# Altium integrated library con-molex.IntLib: 368 symbols (part 4 of 6)

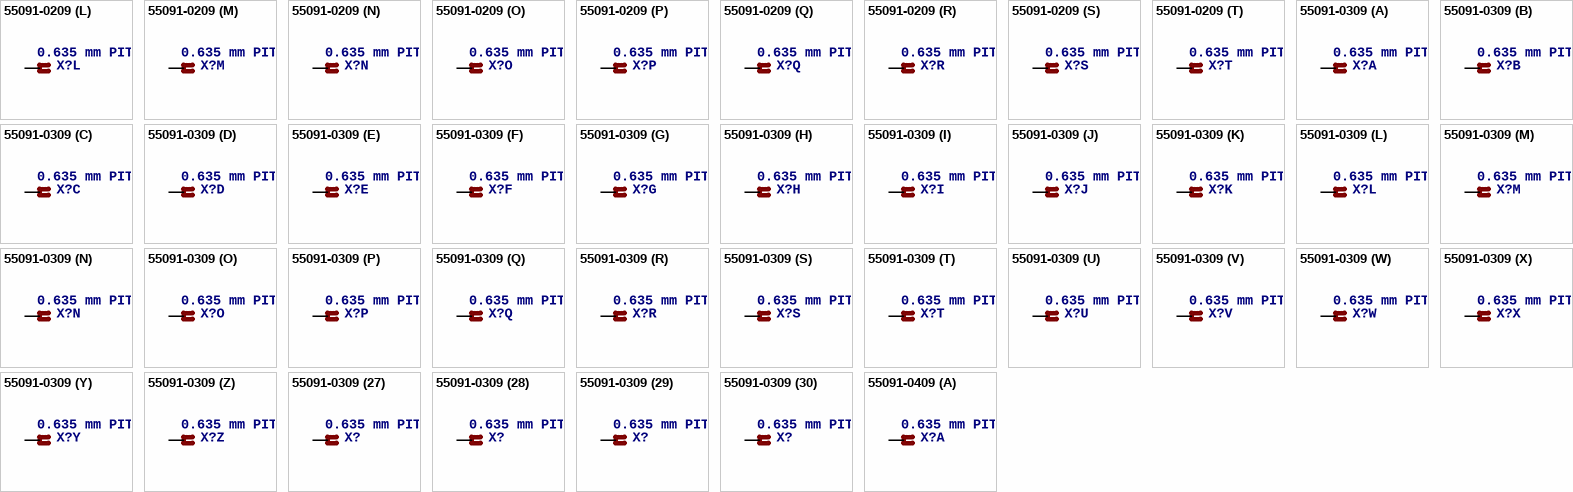
[diagram p69: symbols 55091-0209 to 55091-0409]

## 55091-0209
designator X?, comment 0.635 mm PITCH B TO B CONN.   Source: http://www.molex.com/pdm_docs/sd/550911609_sd.pdf
OC_FARNELL: unknown; OC_NEWARK: unknown
footprint 55091-0209
part A pins: 1 S
part B pins: 2 S
part C pins: 3 S
part D pins: 4 S
part E pins: 5 S
part F pins: 6 S
part G pins: 7 S
part H pins: 8 S
part I pins: 9 S
part J pins: 10 S
part K pins: 11 S
part L pins: 12 S
part M pins: 13 S
part N pins: 14 S
part O pins: 15 S
part P pins: 16 S
part Q pins: 17 S
part R pins: 18 S
part S pins: 19 S
part T pins: 20 S

## 55091-0309
designator X?, comment 0.635 mm PITCH B TO B CONN.   Source: http://www.molex.com/pdm_docs/sd/550911609_sd.pdf
OC_FARNELL: unknown; OC_NEWARK: unknown
footprint 55091-0309
part A pins: 1 S
part B pins: 2 S
part C pins: 3 S
part D pins: 4 S
part E pins: 5 S
part F pins: 6 S
part G pins: 7 S
part H pins: 8 S
part I pins: 9 S
part J pins: 10 S
part K pins: 11 S
part L pins: 12 S
part M pins: 13 S
part N pins: 14 S
part O pins: 15 S
part P pins: 16 S
part Q pins: 17 S
part R pins: 18 S
part S pins: 19 S
part T pins: 20 S
part U pins: 21 S
part V pins: 22 S
part W pins: 23 S
part X pins: 24 S
part Y pins: 25 S
part Z pins: 26 S
part 27 pins: 27 S
part 28 pins: 28 S
part 29 pins: 29 S
part 30 pins: 30 S

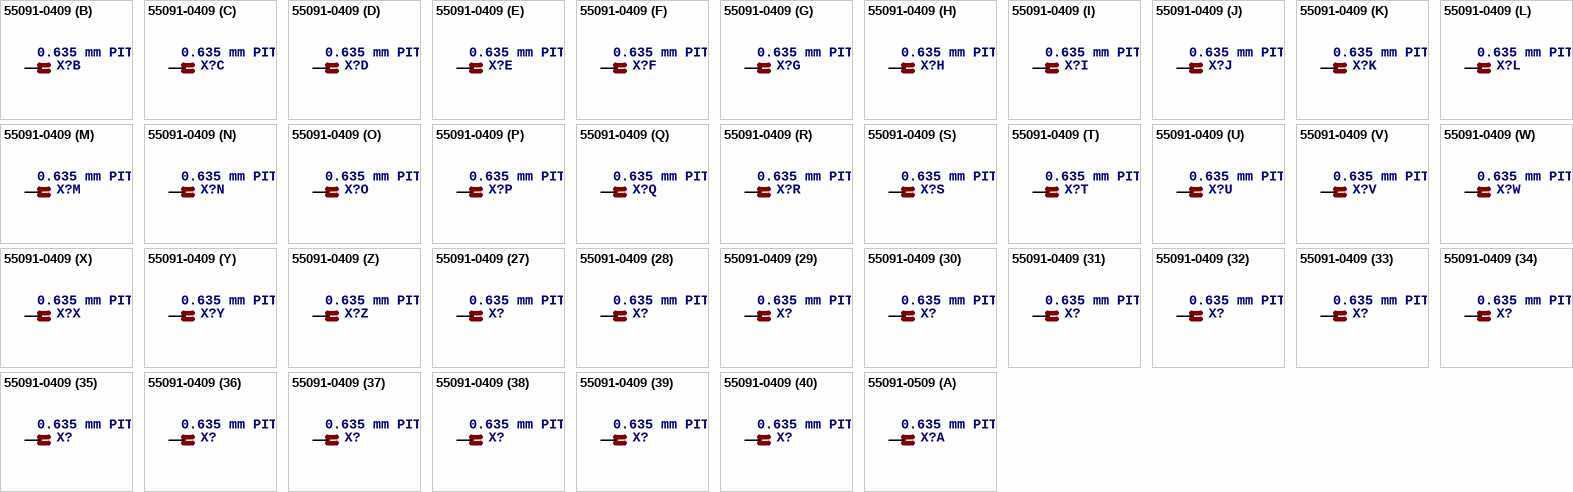
[diagram p70: symbols 55091-0409 to 55091-0509]

## 55091-0409
designator X?, comment 0.635 mm PITCH B TO B CONN.   Source: http://www.molex.com/pdm_docs/sd/550911609_sd.pdf
OC_FARNELL: unknown; OC_NEWARK: unknown
footprint 55091-0409
part A pins: 1 S
part B pins: 2 S
part C pins: 3 S
part D pins: 4 S
part E pins: 5 S
part F pins: 6 S
part G pins: 7 S
part H pins: 8 S
part I pins: 9 S
part J pins: 10 S
part K pins: 11 S
part L pins: 12 S
part M pins: 13 S
part N pins: 14 S
part O pins: 15 S
part P pins: 16 S
part Q pins: 17 S
part R pins: 18 S
part S pins: 19 S
part T pins: 20 S
part U pins: 21 S
part V pins: 22 S
part W pins: 23 S
part X pins: 24 S
part Y pins: 25 S
part Z pins: 26 S
part 27 pins: 27 S
part 28 pins: 28 S
part 29 pins: 29 S
part 30 pins: 30 S
part 31 pins: 31 S
part 32 pins: 32 S
part 33 pins: 33 S
part 34 pins: 34 S
part 35 pins: 35 S
part 36 pins: 36 S
part 37 pins: 37 S
part 38 pins: 38 S
part 39 pins: 39 S
part 40 pins: 40 S

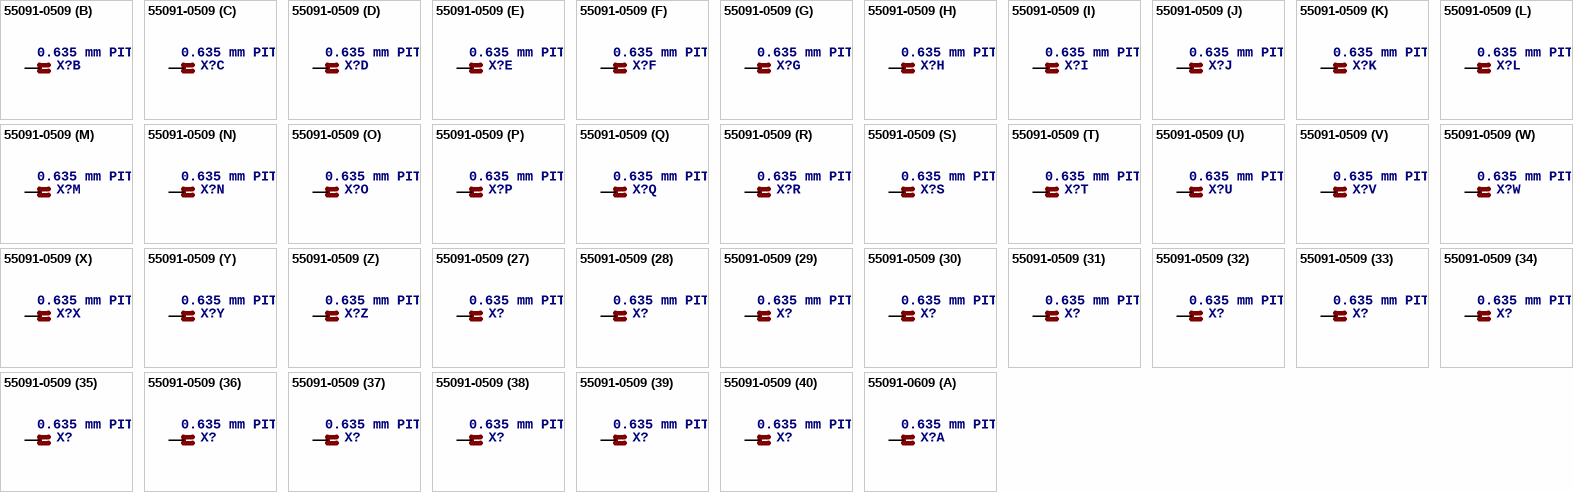
[diagram p71: symbols 55091-0509 to 55091-0609]

## 55091-0509
designator X?, comment 0.635 mm PITCH B TO B CONN.   Source: http://www.molex.com/pdm_docs/sd/550911609_sd.pdf
OC_FARNELL: unknown; OC_NEWARK: unknown
footprint 55091-0509
part A pins: 1 S
part B pins: 2 S
part C pins: 3 S
part D pins: 4 S
part E pins: 5 S
part F pins: 6 S
part G pins: 7 S
part H pins: 8 S
part I pins: 9 S
part J pins: 10 S
part K pins: 11 S
part L pins: 12 S
part M pins: 13 S
part N pins: 14 S
part O pins: 15 S
part P pins: 16 S
part Q pins: 17 S
part R pins: 18 S
part S pins: 19 S
part T pins: 20 S
part U pins: 21 S
part V pins: 22 S
part W pins: 23 S
part X pins: 24 S
part Y pins: 25 S
part Z pins: 26 S
part 27 pins: 27 S
part 28 pins: 28 S
part 29 pins: 29 S
part 30 pins: 30 S
part 31 pins: 31 S
part 32 pins: 32 S
part 33 pins: 33 S
part 34 pins: 34 S
part 35 pins: 35 S
part 36 pins: 36 S
part 37 pins: 37 S
part 38 pins: 38 S
part 39 pins: 39 S
part 40 pins: 40 S
part 41 pins: 41 S
part 42 pins: 42 S
part 43 pins: 43 S
part 44 pins: 44 S
part 45 pins: 45 S
part 46 pins: 46 S
part 47 pins: 47 S
part 48 pins: 48 S
part 49 pins: 49 S
part 50 pins: 50 S

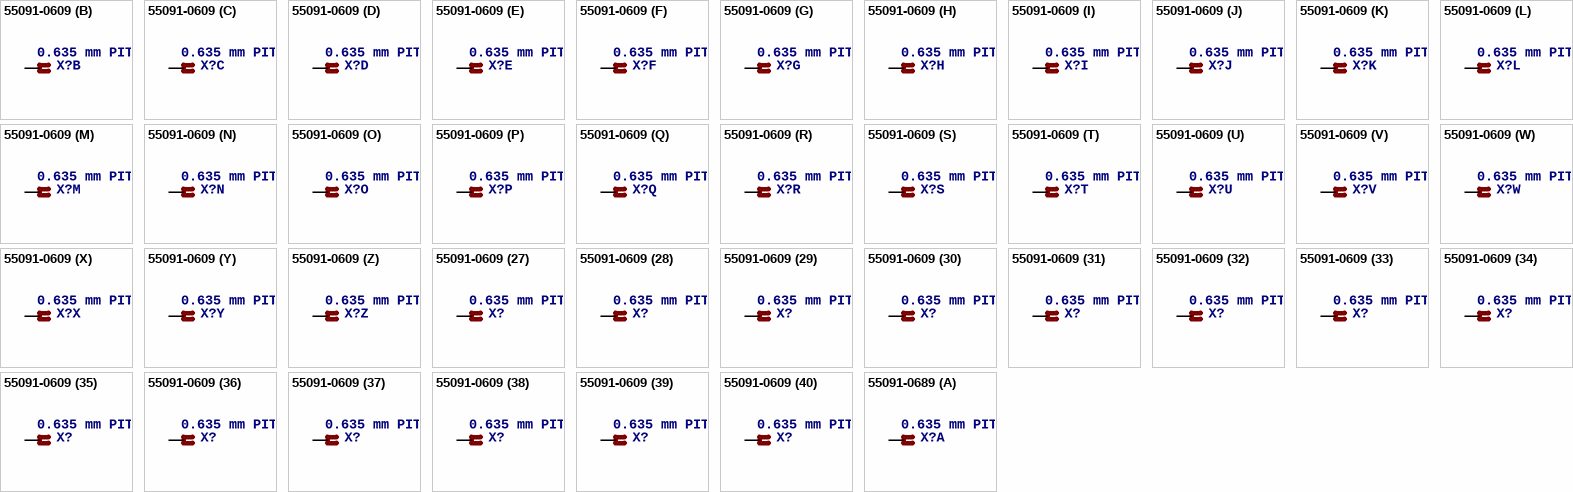
[diagram p72: symbols 55091-0609 to 55091-0689]

## 55091-0609
designator X?, comment 0.635 mm PITCH B TO B CONN.   Source: http://www.molex.com/pdm_docs/sd/550911609_sd.pdf
OC_FARNELL: unknown; OC_NEWARK: unknown
footprint 55091-0609
part A pins: 1 S
part B pins: 2 S
part C pins: 3 S
part D pins: 4 S
part E pins: 5 S
part F pins: 6 S
part G pins: 7 S
part H pins: 8 S
part I pins: 9 S
part J pins: 10 S
part K pins: 11 S
part L pins: 12 S
part M pins: 13 S
part N pins: 14 S
part O pins: 15 S
part P pins: 16 S
part Q pins: 17 S
part R pins: 18 S
part S pins: 19 S
part T pins: 20 S
part U pins: 21 S
part V pins: 22 S
part W pins: 23 S
part X pins: 24 S
part Y pins: 25 S
part Z pins: 26 S
part 27 pins: 27 S
part 28 pins: 28 S
part 29 pins: 29 S
part 30 pins: 30 S
part 31 pins: 31 S
part 32 pins: 32 S
part 33 pins: 33 S
part 34 pins: 34 S
part 35 pins: 35 S
part 36 pins: 36 S
part 37 pins: 37 S
part 38 pins: 38 S
part 39 pins: 39 S
part 40 pins: 40 S
part 41 pins: 41 S
part 42 pins: 42 S
part 43 pins: 43 S
part 44 pins: 44 S
part 45 pins: 45 S
part 46 pins: 46 S
part 47 pins: 47 S
part 48 pins: 48 S
part 49 pins: 49 S
part 50 pins: 50 S
part 51 pins: 51 S
part 52 pins: 52 S
part 53 pins: 53 S
part 54 pins: 54 S
part 55 pins: 55 S
part 56 pins: 56 S
part 57 pins: 57 S
part 58 pins: 58 S
part 59 pins: 59 S
part 60 pins: 60 S

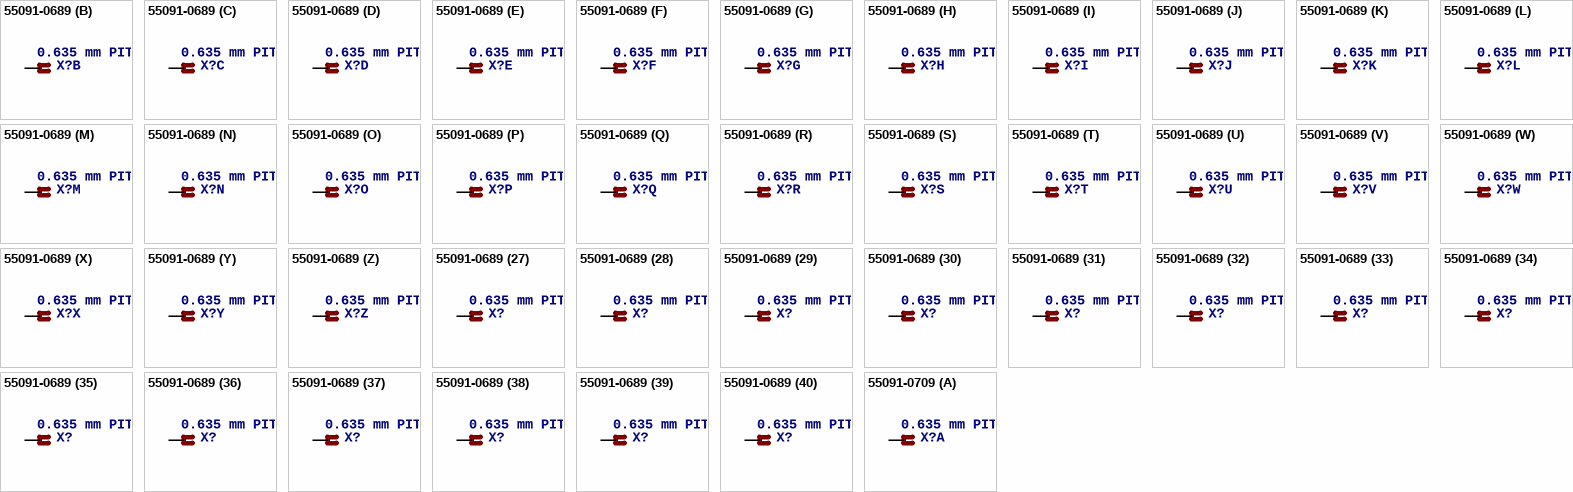
[diagram p73: symbols 55091-0689 to 55091-0709]

## 55091-0689
designator X?, comment 0.635 mm PITCH B TO B CONN.   Source: http://www.molex.com/pdm_docs/sd/550911609_sd.pdf
OC_FARNELL: unknown; OC_NEWARK: unknown
footprint 55091-0689
part A pins: 1 S
part B pins: 2 S
part C pins: 3 S
part D pins: 4 S
part E pins: 5 S
part F pins: 6 S
part G pins: 7 S
part H pins: 8 S
part I pins: 9 S
part J pins: 10 S
part K pins: 11 S
part L pins: 12 S
part M pins: 13 S
part N pins: 14 S
part O pins: 15 S
part P pins: 16 S
part Q pins: 17 S
part R pins: 18 S
part S pins: 19 S
part T pins: 20 S
part U pins: 21 S
part V pins: 22 S
part W pins: 23 S
part X pins: 24 S
part Y pins: 25 S
part Z pins: 26 S
part 27 pins: 27 S
part 28 pins: 28 S
part 29 pins: 29 S
part 30 pins: 30 S
part 31 pins: 31 S
part 32 pins: 32 S
part 33 pins: 33 S
part 34 pins: 34 S
part 35 pins: 35 S
part 36 pins: 36 S
part 37 pins: 37 S
part 38 pins: 38 S
part 39 pins: 39 S
part 40 pins: 40 S
part 41 pins: 41 S
part 42 pins: 42 S
part 43 pins: 43 S
part 44 pins: 44 S
part 45 pins: 45 S
part 46 pins: 46 S
part 47 pins: 47 S
part 48 pins: 48 S
part 49 pins: 49 S
part 50 pins: 50 S
part 51 pins: 51 S
part 52 pins: 52 S
part 53 pins: 53 S
part 54 pins: 54 S
part 55 pins: 55 S
part 56 pins: 56 S
part 57 pins: 57 S
part 58 pins: 58 S
part 59 pins: 59 S
part 60 pins: 60 S
part 61 pins: 61 S
part 62 pins: 62 S
part 63 pins: 63 S
part 64 pins: 64 S
part 65 pins: 65 S
part 66 pins: 66 S
part 67 pins: 67 S
part 68 pins: 68 S

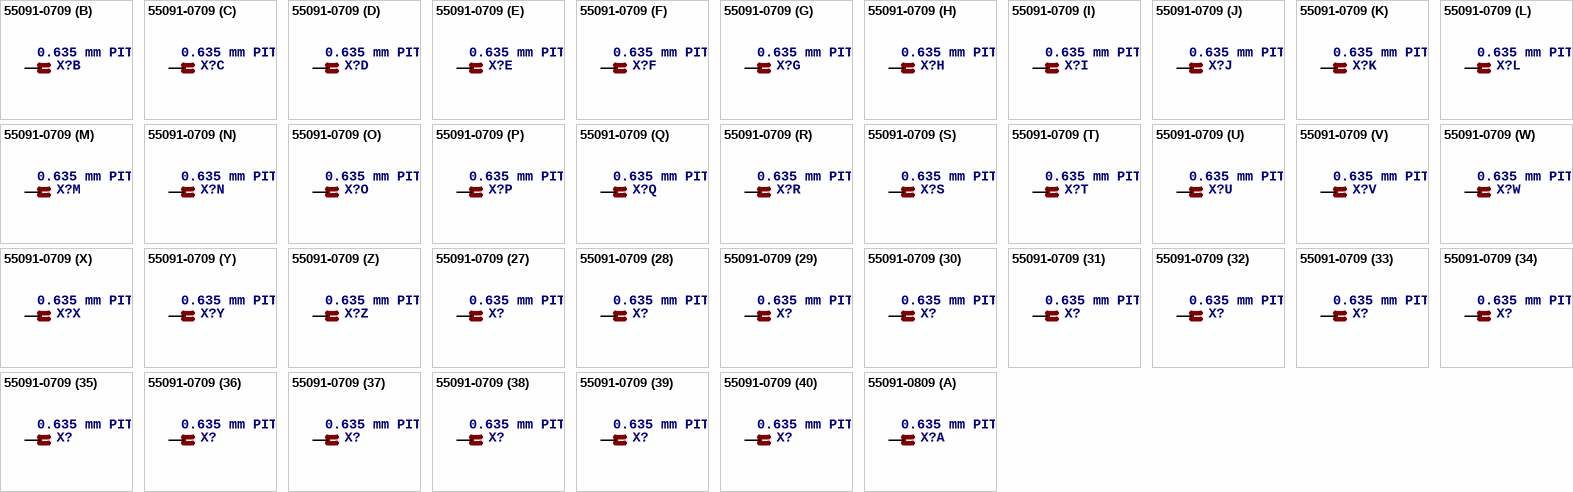
[diagram p74: symbols 55091-0709 to 55091-0809]

## 55091-0709
designator X?, comment 0.635 mm PITCH B TO B CONN.   Source: http://www.molex.com/pdm_docs/sd/550911609_sd.pdf
OC_FARNELL: unknown; OC_NEWARK: unknown
footprint 55091-0709
part A pins: 1 S
part B pins: 2 S
part C pins: 3 S
part D pins: 4 S
part E pins: 5 S
part F pins: 6 S
part G pins: 7 S
part H pins: 8 S
part I pins: 9 S
part J pins: 10 S
part K pins: 11 S
part L pins: 12 S
part M pins: 13 S
part N pins: 14 S
part O pins: 15 S
part P pins: 16 S
part Q pins: 17 S
part R pins: 18 S
part S pins: 19 S
part T pins: 20 S
part U pins: 21 S
part V pins: 22 S
part W pins: 23 S
part X pins: 24 S
part Y pins: 25 S
part Z pins: 26 S
part 27 pins: 27 S
part 28 pins: 28 S
part 29 pins: 29 S
part 30 pins: 30 S
part 31 pins: 31 S
part 32 pins: 32 S
part 33 pins: 33 S
part 34 pins: 34 S
part 35 pins: 35 S
part 36 pins: 36 S
part 37 pins: 37 S
part 38 pins: 38 S
part 39 pins: 39 S
part 40 pins: 40 S
part 41 pins: 41 S
part 42 pins: 42 S
part 43 pins: 43 S
part 44 pins: 44 S
part 45 pins: 45 S
part 46 pins: 46 S
part 47 pins: 47 S
part 48 pins: 48 S
part 49 pins: 49 S
part 50 pins: 50 S
part 51 pins: 51 S
part 52 pins: 52 S
part 53 pins: 53 S
part 54 pins: 54 S
part 55 pins: 55 S
part 56 pins: 56 S
part 57 pins: 57 S
part 58 pins: 58 S
part 59 pins: 59 S
part 60 pins: 60 S
part 61 pins: 61 S
part 62 pins: 62 S
part 63 pins: 63 S
part 64 pins: 64 S
part 65 pins: 65 S
part 66 pins: 66 S
part 67 pins: 67 S
part 68 pins: 68 S
part 69 pins: 69 S
part 70 pins: 70 S

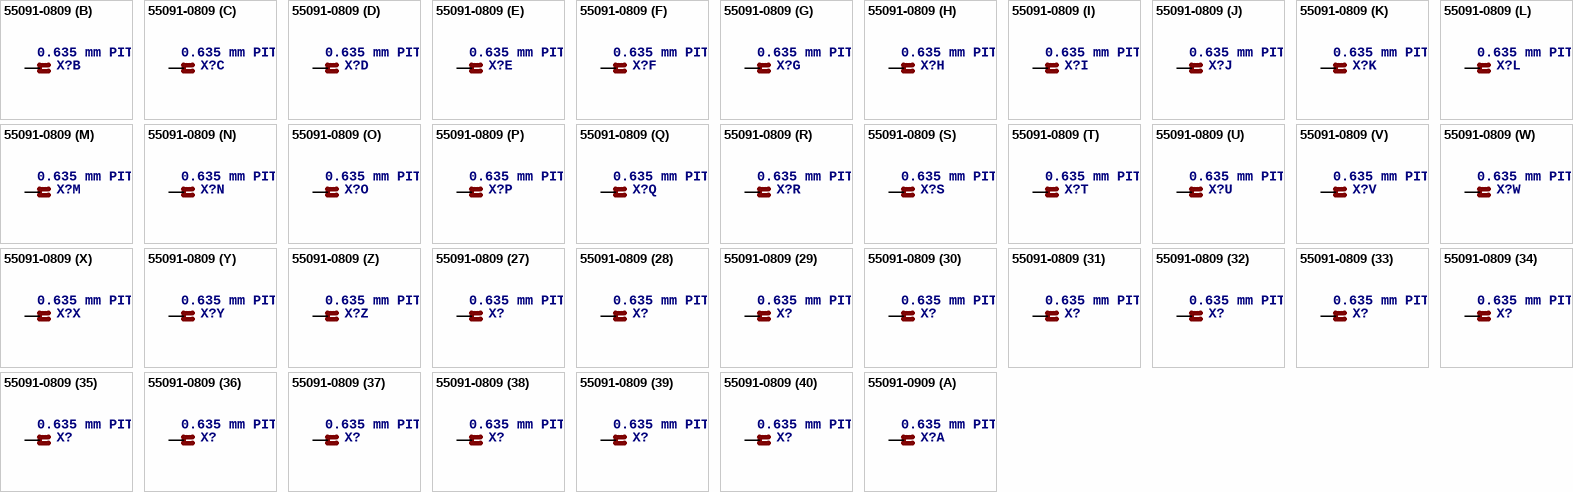
[diagram p75: symbols 55091-0809 to 55091-0909]

## 55091-0809
designator X?, comment 0.635 mm PITCH B TO B CONN.   Source: http://www.molex.com/pdm_docs/sd/550911609_sd.pdf
OC_FARNELL: unknown; OC_NEWARK: unknown
footprint 55091-0809
part A pins: 1 S
part B pins: 2 S
part C pins: 3 S
part D pins: 4 S
part E pins: 5 S
part F pins: 6 S
part G pins: 7 S
part H pins: 8 S
part I pins: 9 S
part J pins: 10 S
part K pins: 11 S
part L pins: 12 S
part M pins: 13 S
part N pins: 14 S
part O pins: 15 S
part P pins: 16 S
part Q pins: 17 S
part R pins: 18 S
part S pins: 19 S
part T pins: 20 S
part U pins: 21 S
part V pins: 22 S
part W pins: 23 S
part X pins: 24 S
part Y pins: 25 S
part Z pins: 26 S
part 27 pins: 27 S
part 28 pins: 28 S
part 29 pins: 29 S
part 30 pins: 30 S
part 31 pins: 31 S
part 32 pins: 32 S
part 33 pins: 33 S
part 34 pins: 34 S
part 35 pins: 35 S
part 36 pins: 36 S
part 37 pins: 37 S
part 38 pins: 38 S
part 39 pins: 39 S
part 40 pins: 40 S
part 41 pins: 41 S
part 42 pins: 42 S
part 43 pins: 43 S
part 44 pins: 44 S
part 45 pins: 45 S
part 46 pins: 46 S
part 47 pins: 47 S
part 48 pins: 48 S
part 49 pins: 49 S
part 50 pins: 50 S
part 51 pins: 51 S
part 52 pins: 52 S
part 53 pins: 53 S
part 54 pins: 54 S
part 55 pins: 55 S
part 56 pins: 56 S
part 57 pins: 57 S
part 58 pins: 58 S
part 59 pins: 59 S
part 60 pins: 60 S
part 61 pins: 61 S
part 62 pins: 62 S
part 63 pins: 63 S
part 64 pins: 64 S
part 65 pins: 65 S
part 66 pins: 66 S
part 67 pins: 67 S
part 68 pins: 68 S
part 69 pins: 69 S
part 70 pins: 70 S
part 71 pins: 71 S
part 72 pins: 72 S
part 73 pins: 73 S
part 74 pins: 74 S
part 75 pins: 75 S
part 76 pins: 76 S
part 77 pins: 77 S
part 78 pins: 78 S
part 79 pins: 79 S
part 80 pins: 80 S

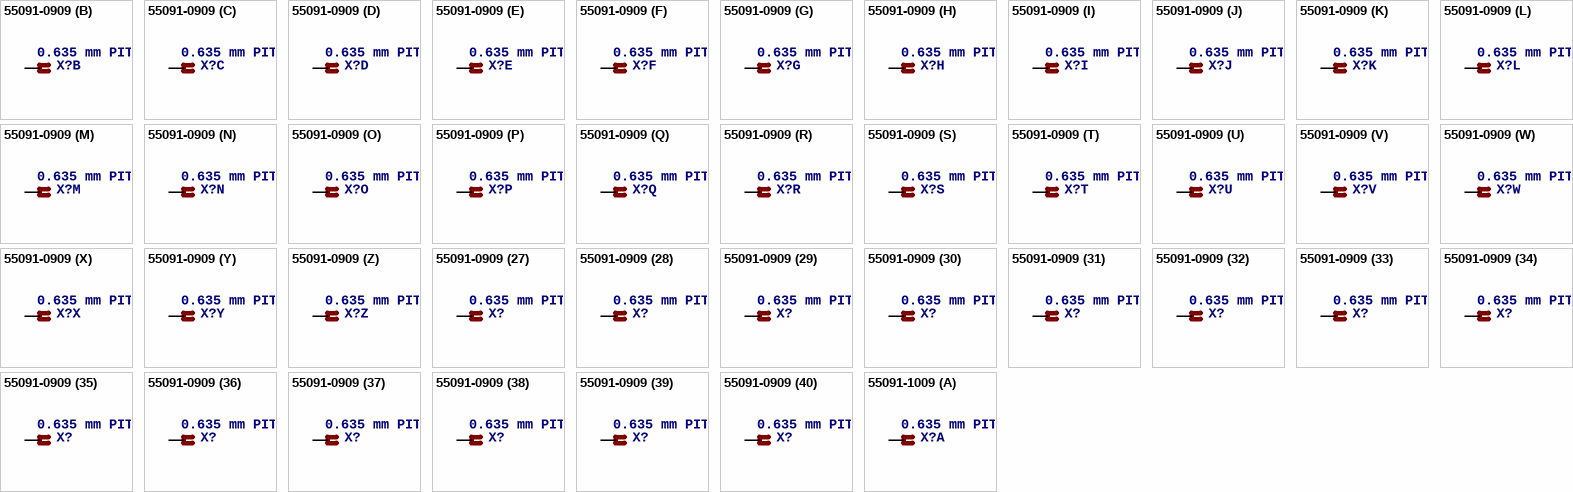
[diagram p76: symbols 55091-0909 to 55091-1009]

## 55091-0909
designator X?, comment 0.635 mm PITCH B TO B CONN.   Source: http://www.molex.com/pdm_docs/sd/550911609_sd.pdf
OC_FARNELL: unknown; OC_NEWARK: unknown
footprint 55091-0909
part A pins: 1 S
part B pins: 2 S
part C pins: 3 S
part D pins: 4 S
part E pins: 5 S
part F pins: 6 S
part G pins: 7 S
part H pins: 8 S
part I pins: 9 S
part J pins: 10 S
part K pins: 11 S
part L pins: 12 S
part M pins: 13 S
part N pins: 14 S
part O pins: 15 S
part P pins: 16 S
part Q pins: 17 S
part R pins: 18 S
part S pins: 19 S
part T pins: 20 S
part U pins: 21 S
part V pins: 22 S
part W pins: 23 S
part X pins: 24 S
part Y pins: 25 S
part Z pins: 26 S
part 27 pins: 27 S
part 28 pins: 28 S
part 29 pins: 29 S
part 30 pins: 30 S
part 31 pins: 31 S
part 32 pins: 32 S
part 33 pins: 33 S
part 34 pins: 34 S
part 35 pins: 35 S
part 36 pins: 36 S
part 37 pins: 37 S
part 38 pins: 38 S
part 39 pins: 39 S
part 40 pins: 40 S
part 41 pins: 41 S
part 42 pins: 42 S
part 43 pins: 43 S
part 44 pins: 44 S
part 45 pins: 45 S
part 46 pins: 46 S
part 47 pins: 47 S
part 48 pins: 48 S
part 49 pins: 49 S
part 50 pins: 50 S
part 51 pins: 51 S
part 52 pins: 52 S
part 53 pins: 53 S
part 54 pins: 54 S
part 55 pins: 55 S
part 56 pins: 56 S
part 57 pins: 57 S
part 58 pins: 58 S
part 59 pins: 59 S
part 60 pins: 60 S
part 61 pins: 61 S
part 62 pins: 62 S
part 63 pins: 63 S
part 64 pins: 64 S
part 65 pins: 65 S
part 66 pins: 66 S
part 67 pins: 67 S
part 68 pins: 68 S
part 69 pins: 69 S
part 70 pins: 70 S
part 71 pins: 71 S
part 72 pins: 72 S
part 73 pins: 73 S
part 74 pins: 74 S
part 75 pins: 75 S
part 76 pins: 76 S
part 77 pins: 77 S
part 78 pins: 78 S
part 79 pins: 79 S
part 80 pins: 80 S
part 81 pins: 81 S
part 82 pins: 82 S
part 83 pins: 83 S
part 84 pins: 84 S
part 85 pins: 85 S
part 86 pins: 86 S
part 87 pins: 87 S
part 88 pins: 88 S
part 89 pins: 89 S
part 90 pins: 90 S

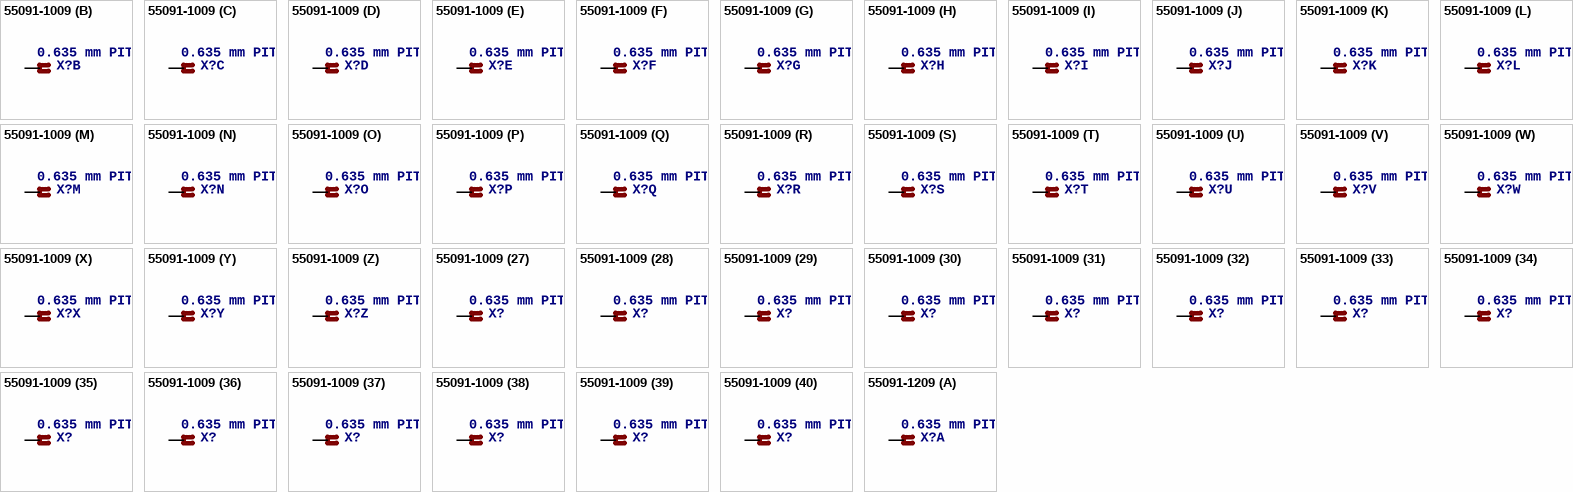
[diagram p77: symbols 55091-1009 to 55091-1209]

## 55091-1009
designator X?, comment 0.635 mm PITCH B TO B CONN.   Source: http://www.molex.com/pdm_docs/sd/550911609_sd.pdf
OC_FARNELL: unknown; OC_NEWARK: unknown
footprint 55091-1009
part A pins: 1 S
part B pins: 2 S
part C pins: 3 S
part D pins: 4 S
part E pins: 5 S
part F pins: 6 S
part G pins: 7 S
part H pins: 8 S
part I pins: 9 S
part J pins: 10 S
part K pins: 11 S
part L pins: 12 S
part M pins: 13 S
part N pins: 14 S
part O pins: 15 S
part P pins: 16 S
part Q pins: 17 S
part R pins: 18 S
part S pins: 19 S
part T pins: 20 S
part U pins: 21 S
part V pins: 22 S
part W pins: 23 S
part X pins: 24 S
part Y pins: 25 S
part Z pins: 26 S
part 27 pins: 27 S
part 28 pins: 28 S
part 29 pins: 29 S
part 30 pins: 30 S
part 31 pins: 31 S
part 32 pins: 32 S
part 33 pins: 33 S
part 34 pins: 34 S
part 35 pins: 35 S
part 36 pins: 36 S
part 37 pins: 37 S
part 38 pins: 38 S
part 39 pins: 39 S
part 40 pins: 40 S
part 41 pins: 41 S
part 42 pins: 42 S
part 43 pins: 43 S
part 44 pins: 44 S
part 45 pins: 45 S
part 46 pins: 46 S
part 47 pins: 47 S
part 48 pins: 48 S
part 49 pins: 49 S
part 50 pins: 50 S
part 51 pins: 51 S
part 52 pins: 52 S
part 53 pins: 53 S
part 54 pins: 54 S
part 55 pins: 55 S
part 56 pins: 56 S
part 57 pins: 57 S
part 58 pins: 58 S
part 59 pins: 59 S
part 60 pins: 60 S
part 61 pins: 61 S
part 62 pins: 62 S
part 63 pins: 63 S
part 64 pins: 64 S
part 65 pins: 65 S
part 66 pins: 66 S
part 67 pins: 67 S
part 68 pins: 68 S
part 69 pins: 69 S
part 70 pins: 70 S
part 71 pins: 71 S
part 72 pins: 72 S
part 73 pins: 73 S
part 74 pins: 74 S
part 75 pins: 75 S
part 76 pins: 76 S
part 77 pins: 77 S
part 78 pins: 78 S
part 79 pins: 79 S
part 80 pins: 80 S
part 81 pins: 81 S
part 82 pins: 82 S
part 83 pins: 83 S
part 84 pins: 84 S
part 85 pins: 85 S
part 86 pins: 86 S
part 87 pins: 87 S
part 88 pins: 88 S
part 89 pins: 89 S
part 90 pins: 90 S
part 91 pins: 91 S
part 92 pins: 92 S
part 93 pins: 93 S
part 94 pins: 94 S
part 95 pins: 95 S
part 96 pins: 96 S
part 97 pins: 97 S
part 98 pins: 98 S
part 99 pins: 99 S
part 100 pins: 100 S

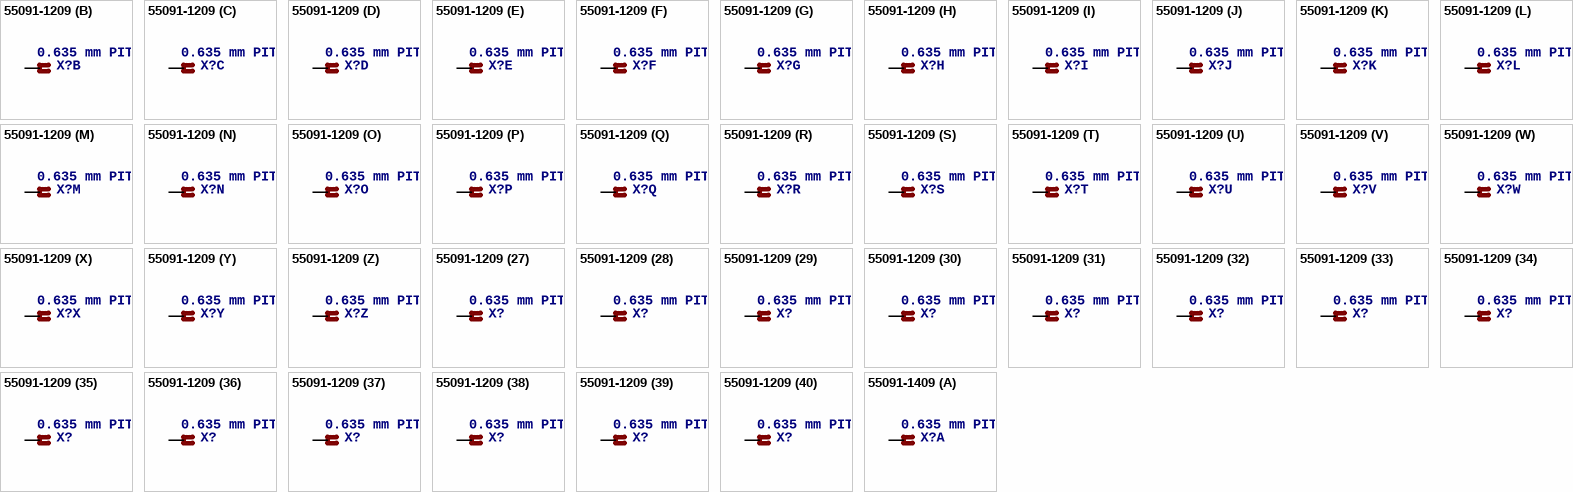
[diagram p78: symbols 55091-1209 to 55091-1409]

## 55091-1209
designator X?, comment 0.635 mm PITCH B TO B CONN.   Source: http://www.molex.com/pdm_docs/sd/550911609_sd.pdf
OC_FARNELL: unknown; OC_NEWARK: unknown
footprint 55091-1209
part A pins: 1 S
part B pins: 2 S
part C pins: 3 S
part D pins: 4 S
part E pins: 5 S
part F pins: 6 S
part G pins: 7 S
part H pins: 8 S
part I pins: 9 S
part J pins: 10 S
part K pins: 11 S
part L pins: 12 S
part M pins: 13 S
part N pins: 14 S
part O pins: 15 S
part P pins: 16 S
part Q pins: 17 S
part R pins: 18 S
part S pins: 19 S
part T pins: 20 S
part U pins: 21 S
part V pins: 22 S
part W pins: 23 S
part X pins: 24 S
part Y pins: 25 S
part Z pins: 26 S
part 27 pins: 27 S
part 28 pins: 28 S
part 29 pins: 29 S
part 30 pins: 30 S
part 31 pins: 31 S
part 32 pins: 32 S
part 33 pins: 33 S
part 34 pins: 34 S
part 35 pins: 35 S
part 36 pins: 36 S
part 37 pins: 37 S
part 38 pins: 38 S
part 39 pins: 39 S
part 40 pins: 40 S
part 41 pins: 41 S
part 42 pins: 42 S
part 43 pins: 43 S
part 44 pins: 44 S
part 45 pins: 45 S
part 46 pins: 46 S
part 47 pins: 47 S
part 48 pins: 48 S
part 49 pins: 49 S
part 50 pins: 50 S
part 51 pins: 51 S
part 52 pins: 52 S
part 53 pins: 53 S
part 54 pins: 54 S
part 55 pins: 55 S
part 56 pins: 56 S
part 57 pins: 57 S
part 58 pins: 58 S
part 59 pins: 59 S
part 60 pins: 60 S
part 61 pins: 61 S
part 62 pins: 62 S
part 63 pins: 63 S
part 64 pins: 64 S
part 65 pins: 65 S
part 66 pins: 66 S
part 67 pins: 67 S
part 68 pins: 68 S
part 69 pins: 69 S
part 70 pins: 70 S
part 71 pins: 71 S
part 72 pins: 72 S
part 73 pins: 73 S
part 74 pins: 74 S
part 75 pins: 75 S
part 76 pins: 76 S
part 77 pins: 77 S
part 78 pins: 78 S
part 79 pins: 79 S
part 80 pins: 80 S
part 81 pins: 81 S
part 82 pins: 82 S
part 83 pins: 83 S
part 84 pins: 84 S
part 85 pins: 85 S
part 86 pins: 86 S
part 87 pins: 87 S
part 88 pins: 88 S
part 89 pins: 89 S
part 90 pins: 90 S
part 91 pins: 91 S
part 92 pins: 92 S
part 93 pins: 93 S
part 94 pins: 94 S
part 95 pins: 95 S
part 96 pins: 96 S
part 97 pins: 97 S
part 98 pins: 98 S
part 99 pins: 99 S
part 100 pins: 100 S
part 101 pins: 101 S
part 102 pins: 102 S
part 103 pins: 103 S
part 104 pins: 104 S
part 105 pins: 105 S
part 106 pins: 106 S
part 107 pins: 107 S
part 108 pins: 108 S
part 109 pins: 109 S
part 110 pins: 110 S
part 111 pins: 111 S
part 112 pins: 112 S
part 113 pins: 113 S
part 114 pins: 114 S
part 115 pins: 115 S
part 116 pins: 116 S
part 117 pins: 117 S
part 118 pins: 118 S
part 119 pins: 119 S
part 120 pins: 120 S

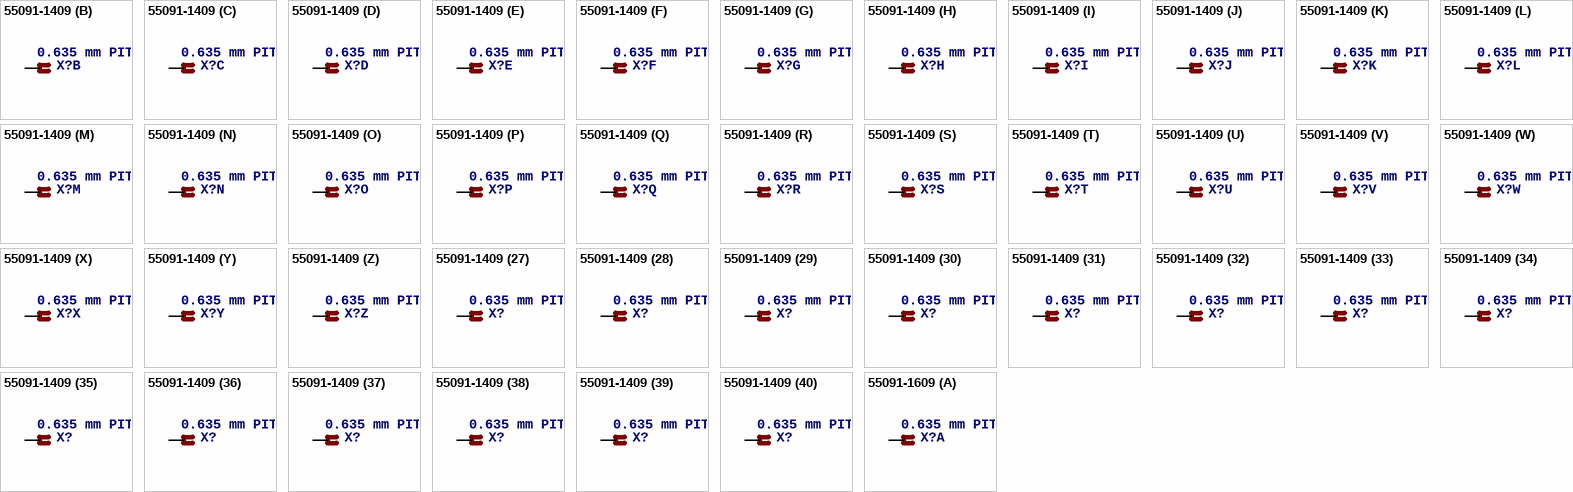
[diagram p79: symbols 55091-1409 to 55091-1609]

## 55091-1409
designator X?, comment 0.635 mm PITCH B TO B CONN.   Source: http://www.molex.com/pdm_docs/sd/550911609_sd.pdf
OC_FARNELL: unknown; OC_NEWARK: unknown
footprint 55091-1409
part A pins: 1 S
part B pins: 2 S
part C pins: 3 S
part D pins: 4 S
part E pins: 5 S
part F pins: 6 S
part G pins: 7 S
part H pins: 8 S
part I pins: 9 S
part J pins: 10 S
part K pins: 11 S
part L pins: 12 S
part M pins: 13 S
part N pins: 14 S
part O pins: 15 S
part P pins: 16 S
part Q pins: 17 S
part R pins: 18 S
part S pins: 19 S
part T pins: 20 S
part U pins: 21 S
part V pins: 22 S
part W pins: 23 S
part X pins: 24 S
part Y pins: 25 S
part Z pins: 26 S
part 27 pins: 27 S
part 28 pins: 28 S
part 29 pins: 29 S
part 30 pins: 30 S
part 31 pins: 31 S
part 32 pins: 32 S
part 33 pins: 33 S
part 34 pins: 34 S
part 35 pins: 35 S
part 36 pins: 36 S
part 37 pins: 37 S
part 38 pins: 38 S
part 39 pins: 39 S
part 40 pins: 40 S
part 41 pins: 41 S
part 42 pins: 42 S
part 43 pins: 43 S
part 44 pins: 44 S
part 45 pins: 45 S
part 46 pins: 46 S
part 47 pins: 47 S
part 48 pins: 48 S
part 49 pins: 49 S
part 50 pins: 50 S
part 51 pins: 51 S
part 52 pins: 52 S
part 53 pins: 53 S
part 54 pins: 54 S
part 55 pins: 55 S
part 56 pins: 56 S
part 57 pins: 57 S
part 58 pins: 58 S
part 59 pins: 59 S
part 60 pins: 60 S
part 61 pins: 61 S
part 62 pins: 62 S
part 63 pins: 63 S
part 64 pins: 64 S
part 65 pins: 65 S
part 66 pins: 66 S
part 67 pins: 67 S
part 68 pins: 68 S
part 69 pins: 69 S
part 70 pins: 70 S
part 71 pins: 71 S
part 72 pins: 72 S
part 73 pins: 73 S
part 74 pins: 74 S
part 75 pins: 75 S
part 76 pins: 76 S
part 77 pins: 77 S
part 78 pins: 78 S
part 79 pins: 79 S
part 80 pins: 80 S
part 81 pins: 81 S
part 82 pins: 82 S
part 83 pins: 83 S
part 84 pins: 84 S
part 85 pins: 85 S
part 86 pins: 86 S
part 87 pins: 87 S
part 88 pins: 88 S
part 89 pins: 89 S
part 90 pins: 90 S
part 91 pins: 91 S
part 92 pins: 92 S
part 93 pins: 93 S
part 94 pins: 94 S
part 95 pins: 95 S
part 96 pins: 96 S
part 97 pins: 97 S
part 98 pins: 98 S
part 99 pins: 99 S
part 100 pins: 100 S
part 101 pins: 101 S
part 102 pins: 102 S
part 103 pins: 103 S
part 104 pins: 104 S
part 105 pins: 105 S
part 106 pins: 106 S
part 107 pins: 107 S
part 108 pins: 108 S
part 109 pins: 109 S
part 110 pins: 110 S
part 111 pins: 111 S
part 112 pins: 112 S
part 113 pins: 113 S
part 114 pins: 114 S
part 115 pins: 115 S
part 116 pins: 116 S
part 117 pins: 117 S
part 118 pins: 118 S
part 119 pins: 119 S
part 120 pins: 120 S
part 121 pins: 121 S
part 122 pins: 122 S
part 123 pins: 123 S
part 124 pins: 124 S
part 125 pins: 125 S
part 126 pins: 126 S
part 127 pins: 127 S
part 128 pins: 128 S
part 129 pins: 129 S
part 130 pins: 130 S
part 131 pins: 131 S
part 132 pins: 132 S
part 133 pins: 133 S
part 134 pins: 134 S
part 135 pins: 135 S
part 136 pins: 136 S
part 137 pins: 137 S
part 138 pins: 138 S
part 139 pins: 139 S
part 140 pins: 140 S

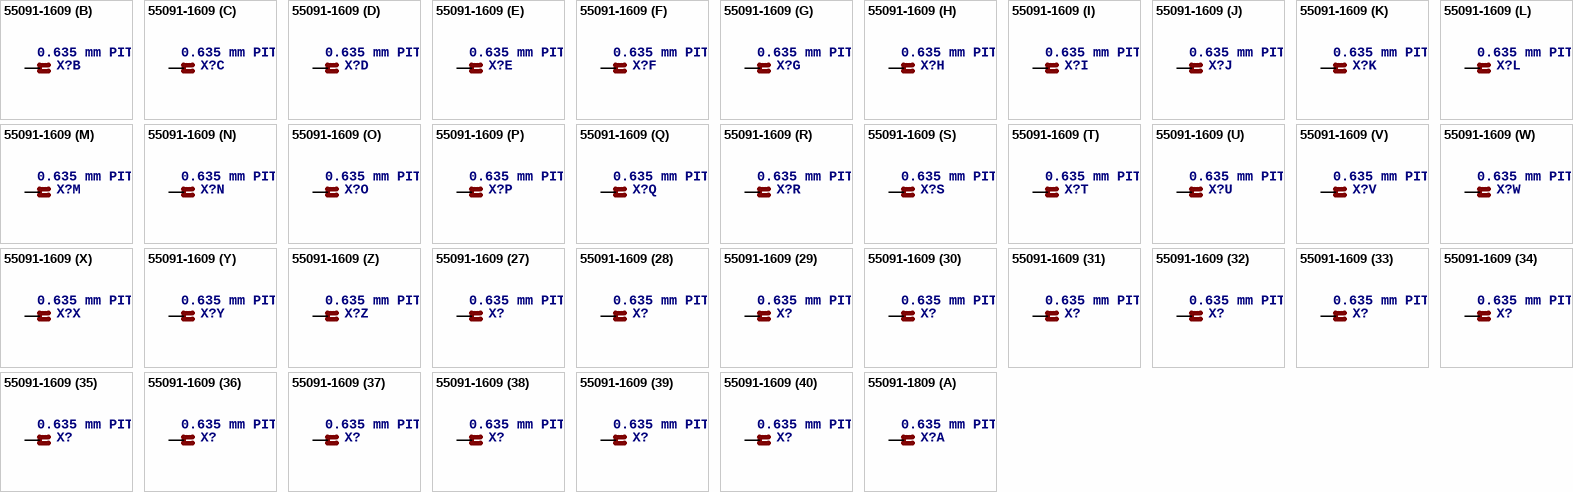
[diagram p80: symbols 55091-1609 to 55091-1809]

## 55091-1609
designator X?, comment 0.635 mm PITCH B TO B CONN.   Source: http://www.molex.com/pdm_docs/sd/550911609_sd.pdf
OC_FARNELL: unknown; OC_NEWARK: unknown
footprint 55091-1609
part A pins: 1 S
part B pins: 2 S
part C pins: 3 S
part D pins: 4 S
part E pins: 5 S
part F pins: 6 S
part G pins: 7 S
part H pins: 8 S
part I pins: 9 S
part J pins: 10 S
part K pins: 11 S
part L pins: 12 S
part M pins: 13 S
part N pins: 14 S
part O pins: 15 S
part P pins: 16 S
part Q pins: 17 S
part R pins: 18 S
part S pins: 19 S
part T pins: 20 S
part U pins: 21 S
part V pins: 22 S
part W pins: 23 S
part X pins: 24 S
part Y pins: 25 S
part Z pins: 26 S
part 27 pins: 27 S
part 28 pins: 28 S
part 29 pins: 29 S
part 30 pins: 30 S
part 31 pins: 31 S
part 32 pins: 32 S
part 33 pins: 33 S
part 34 pins: 34 S
part 35 pins: 35 S
part 36 pins: 36 S
part 37 pins: 37 S
part 38 pins: 38 S
part 39 pins: 39 S
part 40 pins: 40 S
part 41 pins: 41 S
part 42 pins: 42 S
part 43 pins: 43 S
part 44 pins: 44 S
part 45 pins: 45 S
part 46 pins: 46 S
part 47 pins: 47 S
part 48 pins: 48 S
part 49 pins: 49 S
part 50 pins: 50 S
part 51 pins: 51 S
part 52 pins: 52 S
part 53 pins: 53 S
part 54 pins: 54 S
part 55 pins: 55 S
part 56 pins: 56 S
part 57 pins: 57 S
part 58 pins: 58 S
part 59 pins: 59 S
part 60 pins: 60 S
part 61 pins: 61 S
part 62 pins: 62 S
part 63 pins: 63 S
part 64 pins: 64 S
part 65 pins: 65 S
part 66 pins: 66 S
part 67 pins: 67 S
part 68 pins: 68 S
part 69 pins: 69 S
part 70 pins: 70 S
part 71 pins: 71 S
part 72 pins: 72 S
part 73 pins: 73 S
part 74 pins: 74 S
part 75 pins: 75 S
part 76 pins: 76 S
part 77 pins: 77 S
part 78 pins: 78 S
part 79 pins: 79 S
part 80 pins: 80 S
part 81 pins: 81 S
part 82 pins: 82 S
part 83 pins: 83 S
part 84 pins: 84 S
part 85 pins: 85 S
part 86 pins: 86 S
part 87 pins: 87 S
part 88 pins: 88 S
part 89 pins: 89 S
part 90 pins: 90 S
part 91 pins: 91 S
part 92 pins: 92 S
part 93 pins: 93 S
part 94 pins: 94 S
part 95 pins: 95 S
part 96 pins: 96 S
part 97 pins: 97 S
part 98 pins: 98 S
part 99 pins: 99 S
part 100 pins: 100 S
part 101 pins: 101 S
part 102 pins: 102 S
part 103 pins: 103 S
part 104 pins: 104 S
part 105 pins: 105 S
part 106 pins: 106 S
part 107 pins: 107 S
part 108 pins: 108 S
part 109 pins: 109 S
part 110 pins: 110 S
part 111 pins: 111 S
part 112 pins: 112 S
part 113 pins: 113 S
part 114 pins: 114 S
part 115 pins: 115 S
part 116 pins: 116 S
part 117 pins: 117 S
part 118 pins: 118 S
part 119 pins: 119 S
part 120 pins: 120 S
part 121 pins: 121 S
part 122 pins: 122 S
part 123 pins: 123 S
part 124 pins: 124 S
part 125 pins: 125 S
part 126 pins: 126 S
part 127 pins: 127 S
part 128 pins: 128 S
part 129 pins: 129 S
part 130 pins: 130 S
part 131 pins: 131 S
part 132 pins: 132 S
part 133 pins: 133 S
part 134 pins: 134 S
part 135 pins: 135 S
part 136 pins: 136 S
part 137 pins: 137 S
part 138 pins: 138 S
part 139 pins: 139 S
part 140 pins: 140 S
part 141 pins: 141 S
part 142 pins: 142 S
part 143 pins: 143 S
part 144 pins: 144 S
part 145 pins: 145 S
part 146 pins: 146 S
part 147 pins: 147 S
part 148 pins: 148 S
part 149 pins: 149 S
part 150 pins: 150 S
part 151 pins: 151 S
part 152 pins: 152 S
part 153 pins: 153 S
part 154 pins: 154 S
part 155 pins: 155 S
part 156 pins: 156 S
part 157 pins: 157 S
part 158 pins: 158 S
part 159 pins: 159 S
part 160 pins: 160 S

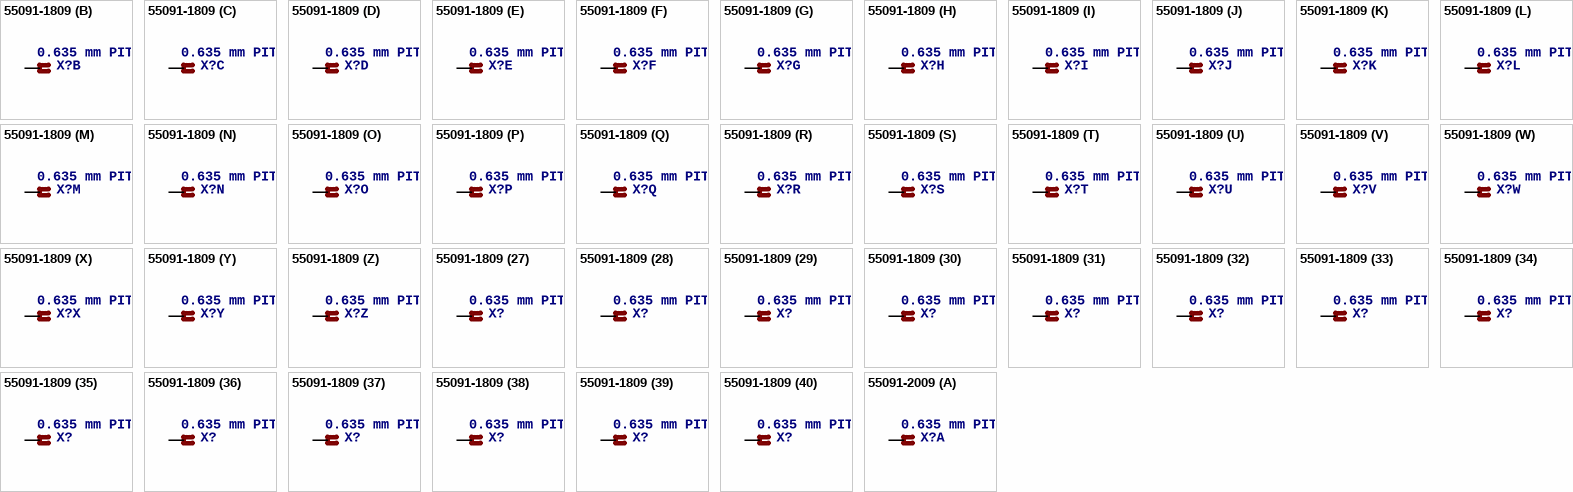
[diagram p81: symbols 55091-1809 to 55091-2009]

## 55091-1809
designator X?, comment 0.635 mm PITCH B TO B CONN.   Source: http://www.molex.com/pdm_docs/sd/550911609_sd.pdf
OC_FARNELL: unknown; OC_NEWARK: unknown
footprint 55091-1809
part A pins: 1 S
part B pins: 2 S
part C pins: 3 S
part D pins: 4 S
part E pins: 5 S
part F pins: 6 S
part G pins: 7 S
part H pins: 8 S
part I pins: 9 S
part J pins: 10 S
part K pins: 11 S
part L pins: 12 S
part M pins: 13 S
part N pins: 14 S
part O pins: 15 S
part P pins: 16 S
part Q pins: 17 S
part R pins: 18 S
part S pins: 19 S
part T pins: 20 S
part U pins: 21 S
part V pins: 22 S
part W pins: 23 S
part X pins: 24 S
part Y pins: 25 S
part Z pins: 26 S
part 27 pins: 27 S
part 28 pins: 28 S
part 29 pins: 29 S
part 30 pins: 30 S
part 31 pins: 31 S
part 32 pins: 32 S
part 33 pins: 33 S
part 34 pins: 34 S
part 35 pins: 35 S
part 36 pins: 36 S
part 37 pins: 37 S
part 38 pins: 38 S
part 39 pins: 39 S
part 40 pins: 40 S
part 41 pins: 41 S
part 42 pins: 42 S
part 43 pins: 43 S
part 44 pins: 44 S
part 45 pins: 45 S
part 46 pins: 46 S
part 47 pins: 47 S
part 48 pins: 48 S
part 49 pins: 49 S
part 50 pins: 50 S
part 51 pins: 51 S
part 52 pins: 52 S
part 53 pins: 53 S
part 54 pins: 54 S
part 55 pins: 55 S
part 56 pins: 56 S
part 57 pins: 57 S
part 58 pins: 58 S
part 59 pins: 59 S
part 60 pins: 60 S
part 61 pins: 61 S
part 62 pins: 62 S
part 63 pins: 63 S
part 64 pins: 64 S
part 65 pins: 65 S
part 66 pins: 66 S
part 67 pins: 67 S
part 68 pins: 68 S
part 69 pins: 69 S
part 70 pins: 70 S
part 71 pins: 71 S
part 72 pins: 72 S
part 73 pins: 73 S
part 74 pins: 74 S
part 75 pins: 75 S
part 76 pins: 76 S
part 77 pins: 77 S
part 78 pins: 78 S
part 79 pins: 79 S
part 80 pins: 80 S
part 81 pins: 81 S
part 82 pins: 82 S
part 83 pins: 83 S
part 84 pins: 84 S
part 85 pins: 85 S
part 86 pins: 86 S
part 87 pins: 87 S
part 88 pins: 88 S
part 89 pins: 89 S
part 90 pins: 90 S
part 91 pins: 91 S
part 92 pins: 92 S
part 93 pins: 93 S
part 94 pins: 94 S
part 95 pins: 95 S
part 96 pins: 96 S
part 97 pins: 97 S
part 98 pins: 98 S
part 99 pins: 99 S
part 100 pins: 100 S
part 101 pins: 101 S
part 102 pins: 102 S
part 103 pins: 103 S
part 104 pins: 104 S
part 105 pins: 105 S
part 106 pins: 106 S
part 107 pins: 107 S
part 108 pins: 108 S
part 109 pins: 109 S
part 110 pins: 110 S
part 111 pins: 111 S
part 112 pins: 112 S
part 113 pins: 113 S
part 114 pins: 114 S
part 115 pins: 115 S
part 116 pins: 116 S
part 117 pins: 117 S
part 118 pins: 118 S
part 119 pins: 119 S
part 120 pins: 120 S
part 121 pins: 121 S
part 122 pins: 122 S
part 123 pins: 123 S
part 124 pins: 124 S
part 125 pins: 125 S
part 126 pins: 126 S
part 127 pins: 127 S
part 128 pins: 128 S
part 129 pins: 129 S
part 130 pins: 130 S
part 131 pins: 131 S
part 132 pins: 132 S
part 133 pins: 133 S
part 134 pins: 134 S
part 135 pins: 135 S
part 136 pins: 136 S
part 137 pins: 137 S
part 138 pins: 138 S
part 139 pins: 139 S
part 140 pins: 140 S
part 141 pins: 141 S
part 142 pins: 142 S
part 143 pins: 143 S
part 144 pins: 144 S
part 145 pins: 145 S
part 146 pins: 146 S
part 147 pins: 147 S
part 148 pins: 148 S
part 149 pins: 149 S
part 150 pins: 150 S
part 151 pins: 151 S
part 152 pins: 152 S
part 153 pins: 153 S
part 154 pins: 154 S
part 155 pins: 155 S
part 156 pins: 156 S
part 157 pins: 157 S
part 158 pins: 158 S
part 159 pins: 159 S
part 160 pins: 160 S
part 161 pins: 161 S
part 162 pins: 162 S
part 163 pins: 163 S
part 164 pins: 164 S
part 165 pins: 165 S
part 166 pins: 166 S
part 167 pins: 167 S
part 168 pins: 168 S
part 169 pins: 169 S
part 170 pins: 170 S
part 171 pins: 171 S
part 172 pins: 172 S
part 173 pins: 173 S
part 174 pins: 174 S
part 175 pins: 175 S
part 176 pins: 176 S
part 177 pins: 177 S
part 178 pins: 178 S
part 179 pins: 179 S
part 180 pins: 180 S

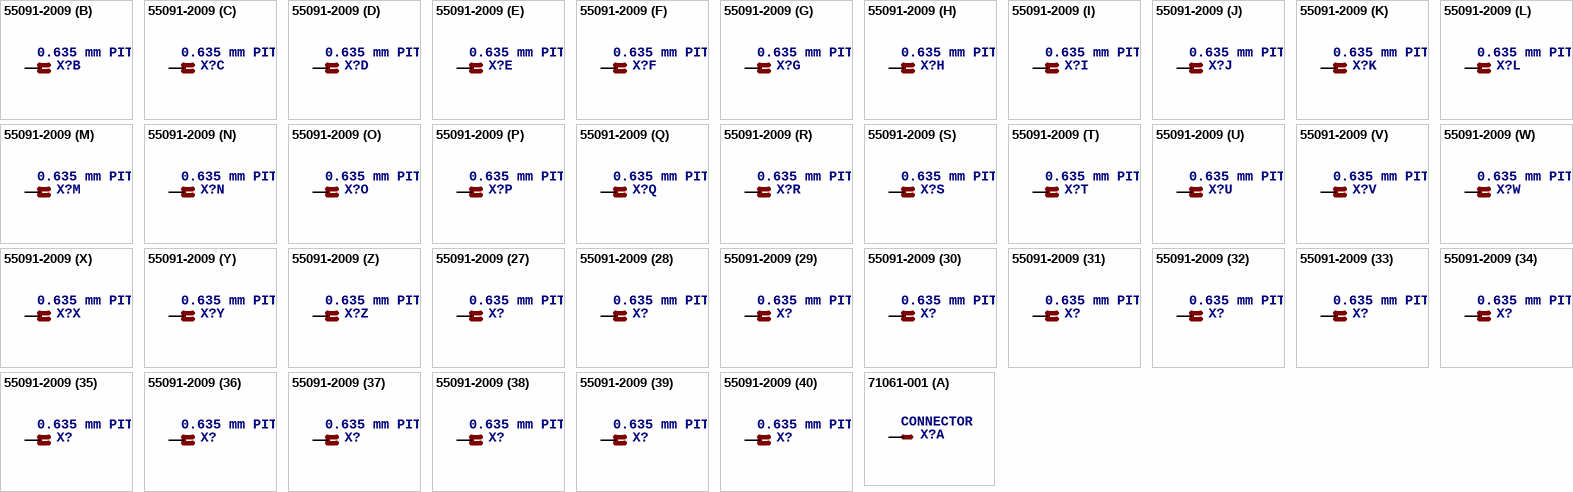
[diagram p82: symbols 55091-2009 to 71061-001]

## 55091-2009
designator X?, comment 0.635 mm PITCH B TO B CONN.   Source: http://www.molex.com/pdm_docs/sd/550911609_sd.pdf
OC_FARNELL: unknown; OC_NEWARK: unknown
footprint 55091-2009
part A pins: 1 S
part B pins: 2 S
part C pins: 3 S
part D pins: 4 S
part E pins: 5 S
part F pins: 6 S
part G pins: 7 S
part H pins: 8 S
part I pins: 9 S
part J pins: 10 S
part K pins: 11 S
part L pins: 12 S
part M pins: 13 S
part N pins: 14 S
part O pins: 15 S
part P pins: 16 S
part Q pins: 17 S
part R pins: 18 S
part S pins: 19 S
part T pins: 20 S
part U pins: 21 S
part V pins: 22 S
part W pins: 23 S
part X pins: 24 S
part Y pins: 25 S
part Z pins: 26 S
part 27 pins: 27 S
part 28 pins: 28 S
part 29 pins: 29 S
part 30 pins: 30 S
part 31 pins: 31 S
part 32 pins: 32 S
part 33 pins: 33 S
part 34 pins: 34 S
part 35 pins: 35 S
part 36 pins: 36 S
part 37 pins: 37 S
part 38 pins: 38 S
part 39 pins: 39 S
part 40 pins: 40 S
part 41 pins: 41 S
part 42 pins: 42 S
part 43 pins: 43 S
part 44 pins: 44 S
part 45 pins: 45 S
part 46 pins: 46 S
part 47 pins: 47 S
part 48 pins: 48 S
part 49 pins: 49 S
part 50 pins: 50 S
part 51 pins: 51 S
part 52 pins: 52 S
part 53 pins: 53 S
part 54 pins: 54 S
part 55 pins: 55 S
part 56 pins: 56 S
part 57 pins: 57 S
part 58 pins: 58 S
part 59 pins: 59 S
part 60 pins: 60 S
part 61 pins: 61 S
part 62 pins: 62 S
part 63 pins: 63 S
part 64 pins: 64 S
part 65 pins: 65 S
part 66 pins: 66 S
part 67 pins: 67 S
part 68 pins: 68 S
part 69 pins: 69 S
part 70 pins: 70 S
part 71 pins: 71 S
part 72 pins: 72 S
part 73 pins: 73 S
part 74 pins: 74 S
part 75 pins: 75 S
part 76 pins: 76 S
part 77 pins: 77 S
part 78 pins: 78 S
part 79 pins: 79 S
part 80 pins: 80 S
part 81 pins: 81 S
part 82 pins: 82 S
part 83 pins: 83 S
part 84 pins: 84 S
part 85 pins: 85 S
part 86 pins: 86 S
part 87 pins: 87 S
part 88 pins: 88 S
part 89 pins: 89 S
part 90 pins: 90 S
part 91 pins: 91 S
part 92 pins: 92 S
part 93 pins: 93 S
part 94 pins: 94 S
part 95 pins: 95 S
part 96 pins: 96 S
part 97 pins: 97 S
part 98 pins: 98 S
part 99 pins: 99 S
part 100 pins: 100 S
part 101 pins: 101 S
part 102 pins: 102 S
part 103 pins: 103 S
part 104 pins: 104 S
part 105 pins: 105 S
part 106 pins: 106 S
part 107 pins: 107 S
part 108 pins: 108 S
part 109 pins: 109 S
part 110 pins: 110 S
part 111 pins: 111 S
part 112 pins: 112 S
part 113 pins: 113 S
part 114 pins: 114 S
part 115 pins: 115 S
part 116 pins: 116 S
part 117 pins: 117 S
part 118 pins: 118 S
part 119 pins: 119 S
part 120 pins: 120 S
part 121 pins: 121 S
part 122 pins: 122 S
part 123 pins: 123 S
part 124 pins: 124 S
part 125 pins: 125 S
part 126 pins: 126 S
part 127 pins: 127 S
part 128 pins: 128 S
part 129 pins: 129 S
part 130 pins: 130 S
part 131 pins: 131 S
part 132 pins: 132 S
part 133 pins: 133 S
part 134 pins: 134 S
part 135 pins: 135 S
part 136 pins: 136 S
part 137 pins: 137 S
part 138 pins: 138 S
part 139 pins: 139 S
part 140 pins: 140 S
part 141 pins: 141 S
part 142 pins: 142 S
part 143 pins: 143 S
part 144 pins: 144 S
part 145 pins: 145 S
part 146 pins: 146 S
part 147 pins: 147 S
part 148 pins: 148 S
part 149 pins: 149 S
part 150 pins: 150 S
part 151 pins: 151 S
part 152 pins: 152 S
part 153 pins: 153 S
part 154 pins: 154 S
part 155 pins: 155 S
part 156 pins: 156 S
part 157 pins: 157 S
part 158 pins: 158 S
part 159 pins: 159 S
part 160 pins: 160 S
part 161 pins: 161 S
part 162 pins: 162 S
part 163 pins: 163 S
part 164 pins: 164 S
part 165 pins: 165 S
part 166 pins: 166 S
part 167 pins: 167 S
part 168 pins: 168 S
part 169 pins: 169 S
part 170 pins: 170 S
part 171 pins: 171 S
part 172 pins: 172 S
part 173 pins: 173 S
part 174 pins: 174 S
part 175 pins: 175 S
part 176 pins: 176 S
part 177 pins: 177 S
part 178 pins: 178 S
part 179 pins: 179 S
part 180 pins: 180 S
part 181 pins: 181 S
part 182 pins: 182 S
part 183 pins: 183 S
part 184 pins: 184 S
part 185 pins: 185 S
part 186 pins: 186 S
part 187 pins: 187 S
part 188 pins: 188 S
part 189 pins: 189 S
part 190 pins: 190 S
part 191 pins: 191 S
part 192 pins: 192 S
part 193 pins: 193 S
part 194 pins: 194 S
part 195 pins: 195 S
part 196 pins: 196 S
part 197 pins: 197 S
part 198 pins: 198 S
part 199 pins: 199 S
part 200 pins: 200 S

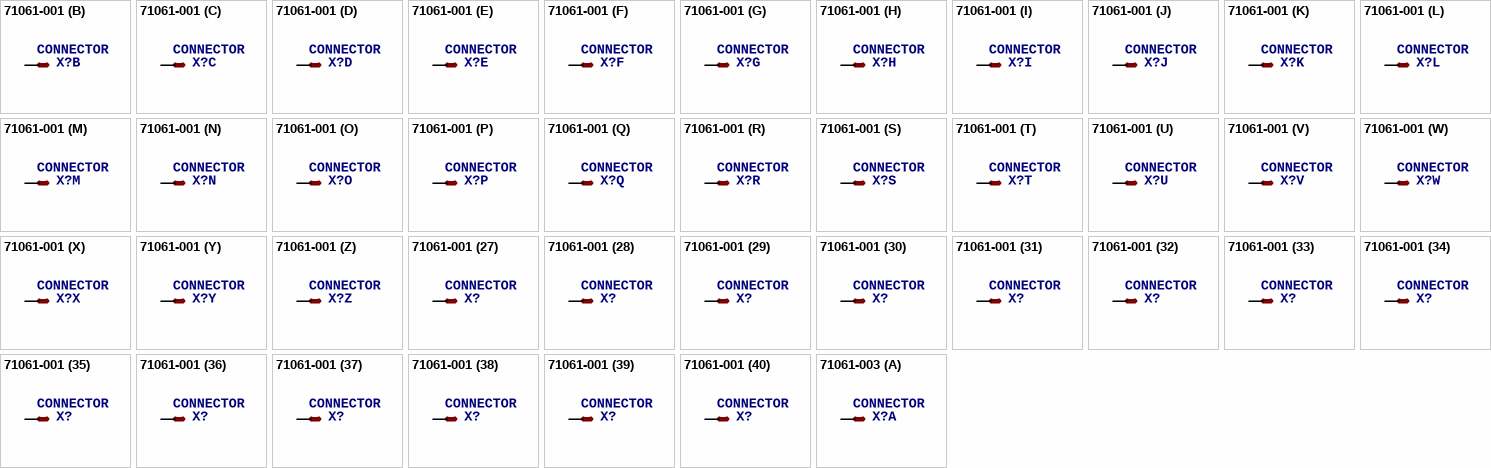
[diagram p83: symbols 71061-001 to 71061-003]

## 71061-001
designator X?, comment CONNECTOR   50-pin 1.27mm (.050 inch) pitch SCSI+ unshielded receptacle   right angle   all plastic
OC_FARNELL: unknown; OC_NEWARK: unknown
footprint 71061-0001
part A pins: 1 S
part B pins: 2 S
part C pins: 3 S
part D pins: 4 S
part E pins: 5 S
part F pins: 6 S
part G pins: 7 S
part H pins: 8 S
part I pins: 9 S
part J pins: 10 S
part K pins: 11 S
part L pins: 12 S
part M pins: 13 S
part N pins: 14 S
part O pins: 15 S
part P pins: 16 S
part Q pins: 17 S
part R pins: 18 S
part S pins: 19 S
part T pins: 20 S
part U pins: 21 S
part V pins: 22 S
part W pins: 23 S
part X pins: 24 S
part Y pins: 25 S
part Z pins: 26 S
part 27 pins: 27 S
part 28 pins: 28 S
part 29 pins: 29 S
part 30 pins: 30 S
part 31 pins: 31 S
part 32 pins: 32 S
part 33 pins: 33 S
part 34 pins: 34 S
part 35 pins: 35 S
part 36 pins: 36 S
part 37 pins: 37 S
part 38 pins: 38 S
part 39 pins: 39 S
part 40 pins: 40 S
part 41 pins: 41 S
part 42 pins: 42 S
part 43 pins: 43 S
part 44 pins: 44 S
part 45 pins: 45 S
part 46 pins: 46 S
part 47 pins: 47 S
part 48 pins: 48 S
part 49 pins: 49 S
part 50 pins: 50 S

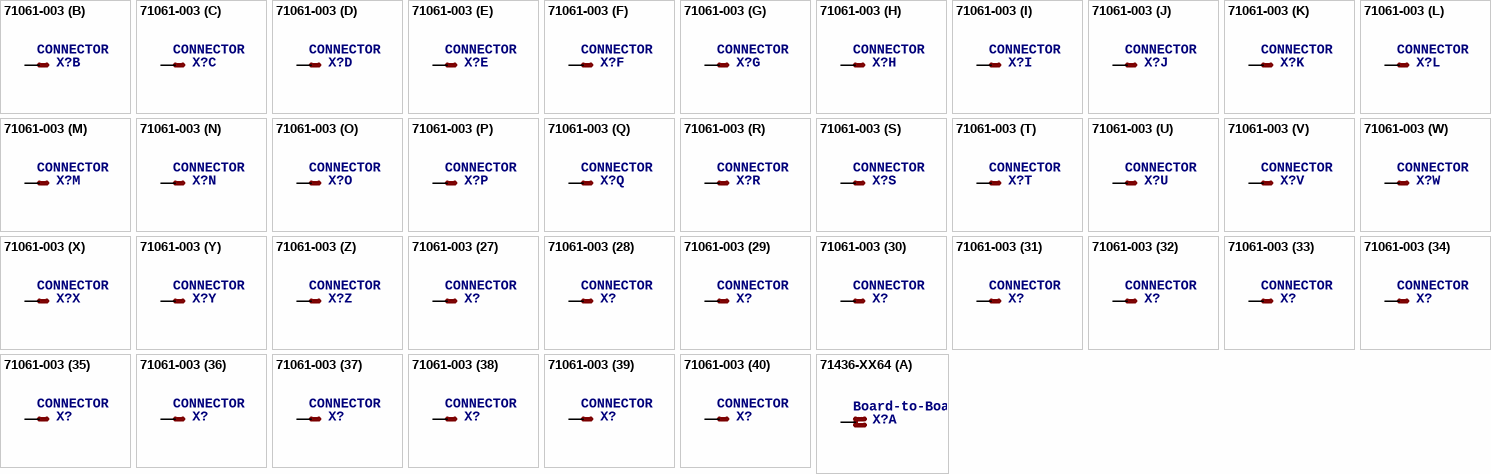
[diagram p84: symbols 71061-003 to 71436-XX64]

## 71061-003
designator X?, comment CONNECTOR   68-pin 1.27mm (.050 inch) pitch SCSI+ unshielded receptacle   right angle   all plastic
OC_FARNELL: unknown; OC_NEWARK: unknown
footprint 71061-0003
part A pins: 1 S
part B pins: 2 S
part C pins: 3 S
part D pins: 4 S
part E pins: 5 S
part F pins: 6 S
part G pins: 7 S
part H pins: 8 S
part I pins: 9 S
part J pins: 10 S
part K pins: 11 S
part L pins: 12 S
part M pins: 13 S
part N pins: 14 S
part O pins: 15 S
part P pins: 16 S
part Q pins: 17 S
part R pins: 18 S
part S pins: 19 S
part T pins: 20 S
part U pins: 21 S
part V pins: 22 S
part W pins: 23 S
part X pins: 24 S
part Y pins: 25 S
part Z pins: 26 S
part 27 pins: 27 S
part 28 pins: 28 S
part 29 pins: 29 S
part 30 pins: 30 S
part 31 pins: 31 S
part 32 pins: 32 S
part 33 pins: 33 S
part 34 pins: 34 S
part 35 pins: 35 S
part 36 pins: 36 S
part 37 pins: 37 S
part 38 pins: 38 S
part 39 pins: 39 S
part 40 pins: 40 S
part 41 pins: 41 S
part 42 pins: 42 S
part 43 pins: 43 S
part 44 pins: 44 S
part 45 pins: 45 S
part 46 pins: 46 S
part 47 pins: 47 S
part 48 pins: 48 S
part 49 pins: 49 S
part 50 pins: 50 S
part 51 pins: 51 S
part 52 pins: 52 S
part 53 pins: 53 S
part 54 pins: 54 S
part 55 pins: 55 S
part 56 pins: 56 S
part 57 pins: 57 S
part 58 pins: 58 S
part 59 pins: 59 S
part 60 pins: 60 S
part 61 pins: 61 S
part 62 pins: 62 S
part 63 pins: 63 S
part 64 pins: 64 S
part 65 pins: 65 S
part 66 pins: 66 S
part 67 pins: 67 S
part 68 pins: 68 S

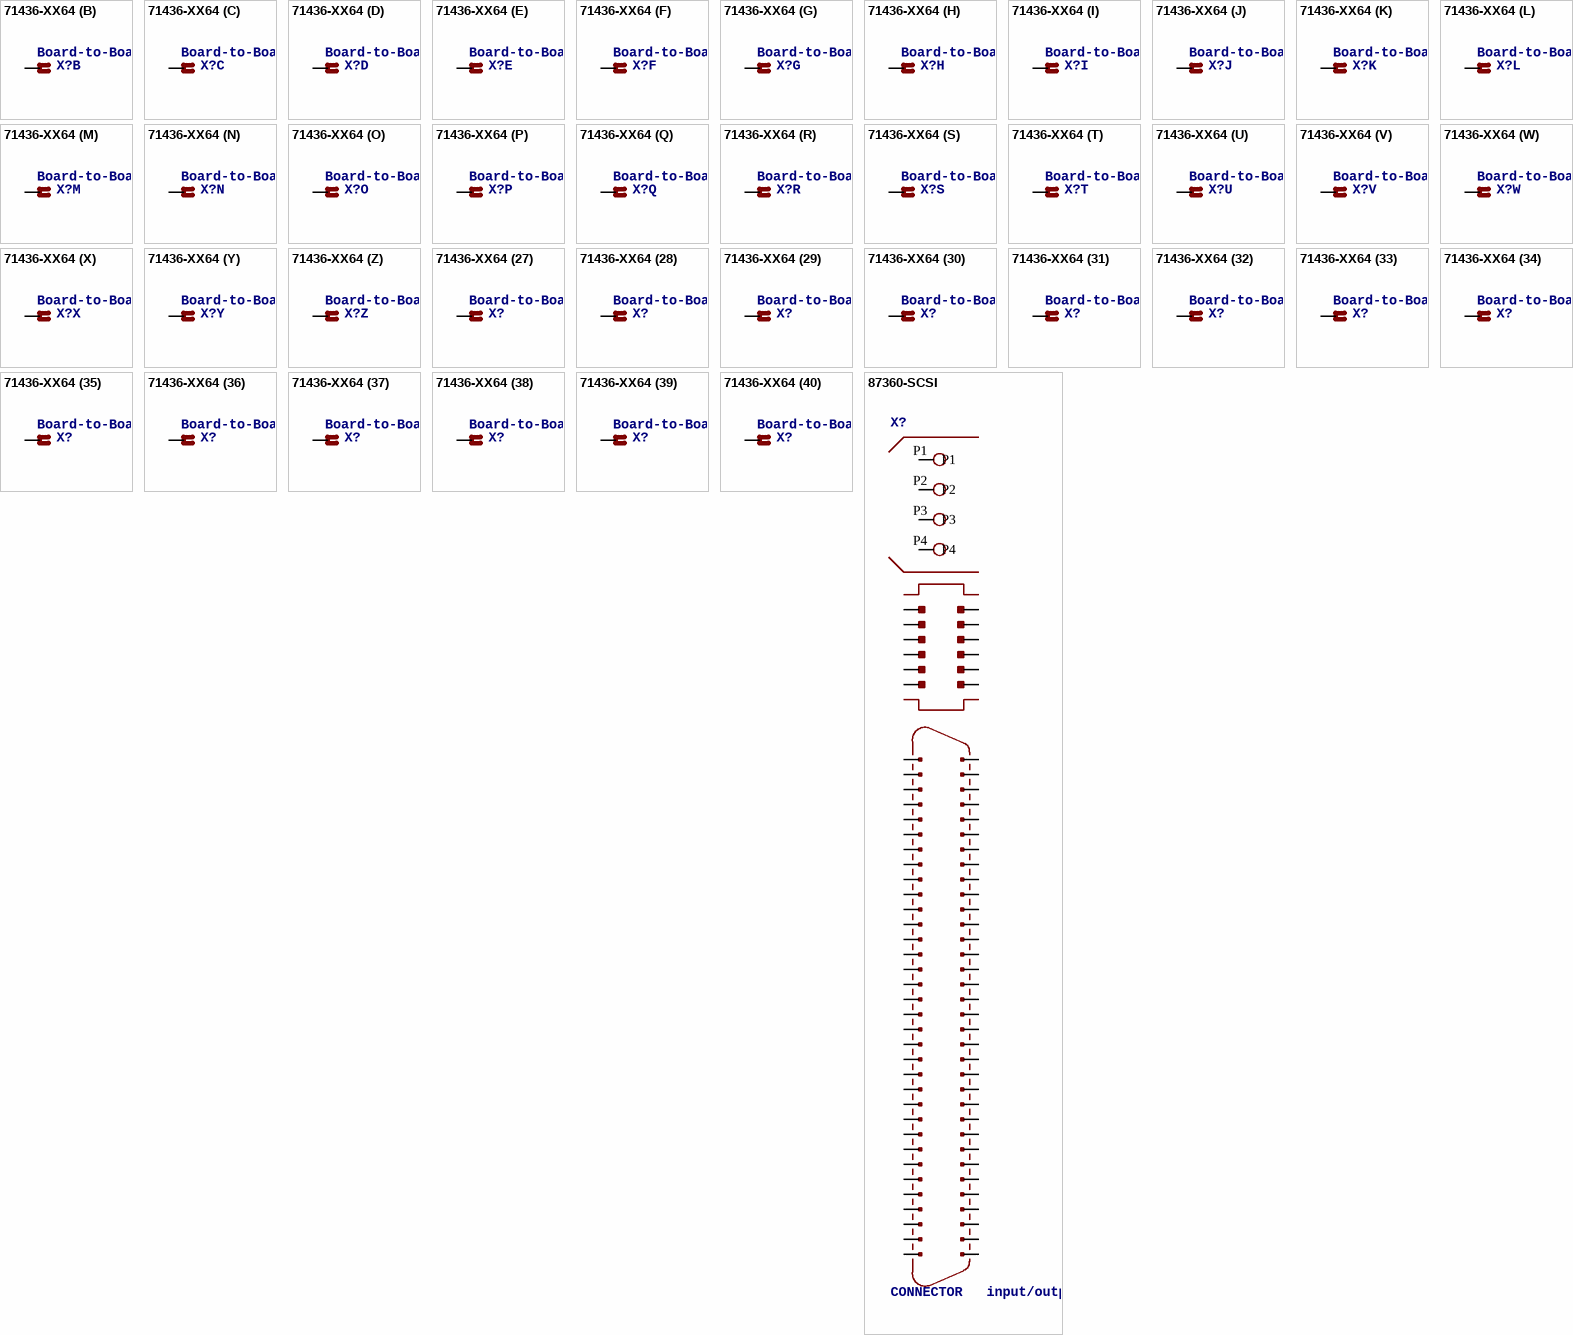
[diagram p85: symbols 71436-XX64 to 87360-SCSI]

## 71436-XX64
designator X?, comment Board-to-Board Connector 1.00mm (.039") Mezzanine IEEE 1386 Plug - Dual Row, SMT, Vertical Stacking   Source: http://www.molex.com/product/micro/71436.html
OC_FARNELL: unknown; OC_NEWARK: unknown
footprint 71436-XX64
part A pins: 1 S
part B pins: 2 S
part C pins: 3 S
part D pins: 4 S
part E pins: 5 S
part F pins: 6 S
part G pins: 7 S
part H pins: 8 S
part I pins: 9 S
part J pins: 10 S
part K pins: 11 S
part L pins: 12 S
part M pins: 13 S
part N pins: 14 S
part O pins: 15 S
part P pins: 16 S
part Q pins: 17 S
part R pins: 18 S
part S pins: 19 S
part T pins: 20 S
part U pins: 21 S
part V pins: 22 S
part W pins: 23 S
part X pins: 24 S
part Y pins: 25 S
part Z pins: 26 S
part 27 pins: 27 S
part 28 pins: 28 S
part 29 pins: 29 S
part 30 pins: 30 S
part 31 pins: 31 S
part 32 pins: 32 S
part 33 pins: 33 S
part 34 pins: 34 S
part 35 pins: 35 S
part 36 pins: 36 S
part 37 pins: 37 S
part 38 pins: 38 S
part 39 pins: 39 S
part 40 pins: 40 S
part 41 pins: 41 S
part 42 pins: 42 S
part 43 pins: 43 S
part 44 pins: 44 S
part 45 pins: 45 S
part 46 pins: 46 S
part 47 pins: 47 S
part 48 pins: 48 S
part 49 pins: 49 S
part 50 pins: 50 S
part 51 pins: 51 S
part 52 pins: 52 S
part 53 pins: 53 S
part 54 pins: 54 S
part 55 pins: 55 S
part 56 pins: 56 S
part 57 pins: 57 S
part 58 pins: 58 S
part 59 pins: 59 S
part 60 pins: 60 S
part 61 pins: 61 S
part 62 pins: 62 S
part 63 pins: 63 S
part 64 pins: 64 S

## 87360-SCSI
designator X?, comment CONNECTOR   input/output 3 in 1 combo connector   wide SCSI, 2.00 mm, power, right angle
OC_FARNELL: unknown; OC_NEWARK: unknown
footprint 87360-SCSI
pins: 1, 2, 3, 4, 5, 6, 7, 8, 9, 10, 11, 12, 13, 14, 15, 16, 17, 18, 19, 20, 21, 22, 23, 24, 25, 26, 27, 28, 29, 30, 31, 32, 33, 34, 35, 36, 37, 38, 39, 40, 41, 42, 43, 44, 45, 46, 47, 48, 49, 50, 51, 52, 53, 54, 55, 56, 57, 58, 59, 60, 61, 62, 63, 64, 65, 66, 67, 68, J1, J2, J3, J4, J5, J6, J7, J8, J9, J10, J11, J12, P1, P2, P3, P4

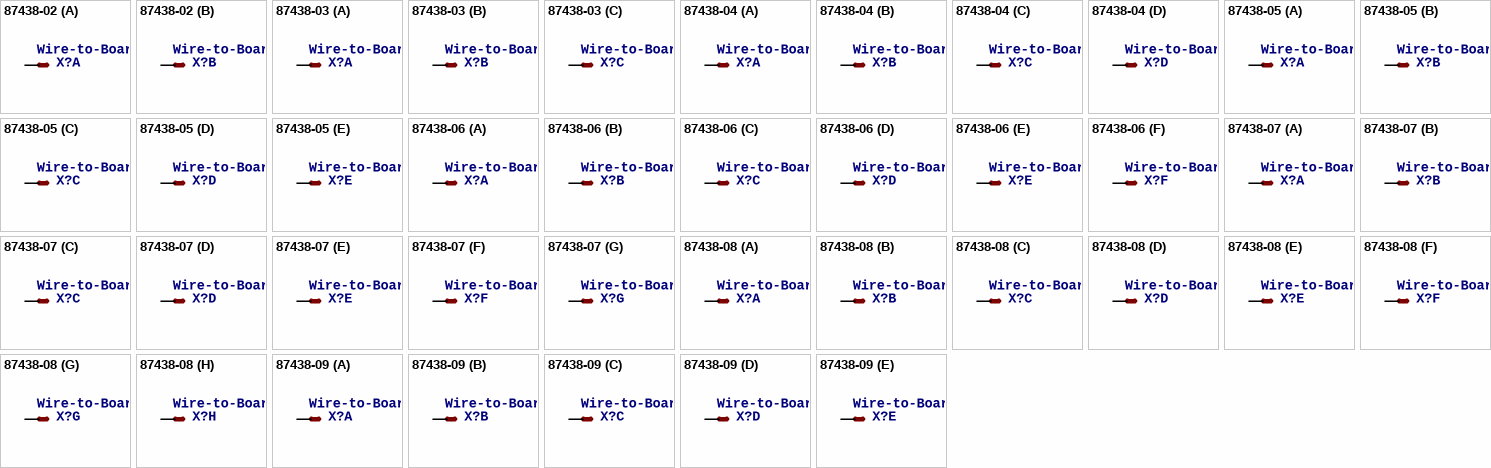
[diagram p86: symbols 87438-02 to 87438-09]

## 87438-02
designator X?, comment Wire-to-Board  1.50mm (.059") Pitch Header - Right Angle, SMT, Shrouded   Source: http://www.molex.com/product/micro/87438.html
OC_FARNELL: 1711327; OC_NEWARK: unknown
footprint 87438-02
part A pins: 1 S
part B pins: 2 S

## 87438-03
designator X?, comment Wire-to-Board  1.50mm (.059") Pitch Header - Right Angle, SMT, Shrouded   Source: http://www.molex.com/product/micro/87438.html
OC_FARNELL: 1711328; OC_NEWARK: unknown
footprint 87438-03
part A pins: 1 S
part B pins: 2 S
part C pins: 3 S

## 87438-04
designator X?, comment Wire-to-Board  1.50mm (.059") Pitch Header - Right Angle, SMT, Shrouded   Source: http://www.molex.com/product/micro/87438.html
OC_FARNELL: unknown; OC_NEWARK: unknown
footprint 87438-04
part A pins: 1 S
part B pins: 2 S
part C pins: 3 S
part D pins: 4 S

## 87438-05
designator X?, comment Wire-to-Board  1.50mm (.059") Pitch Header - Right Angle, SMT, Shrouded   Source: http://www.molex.com/product/micro/87438.html
MPN: 87438-0542; OC_FARNELL: unknown; OC_NEWARK: 94M1090
footprint 87438-05
part A pins: 1 S
part B pins: 2 S
part C pins: 3 S
part D pins: 4 S
part E pins: 5 S

## 87438-06
designator X?, comment Wire-to-Board  1.50mm (.059") Pitch Header - Right Angle, SMT, Shrouded   Source: http://www.molex.com/product/micro/87438.html
MPN: 87438-0643; OC_FARNELL: 1756938; OC_NEWARK: 88K3155
footprint 87438-06
part A pins: 1 S
part B pins: 2 S
part C pins: 3 S
part D pins: 4 S
part E pins: 5 S
part F pins: 6 S

## 87438-07
designator X?, comment Wire-to-Board  1.50mm (.059") Pitch Header - Right Angle, SMT, Shrouded   Source: http://www.molex.com/product/micro/87438.html
MPN: 87438-0733; MF: WALDOM/MOLEX; OC_FARNELL: unknown; OC_NEWARK: 09J7507
footprint 87438-07
part A pins: 1 S
part B pins: 2 S
part C pins: 3 S
part D pins: 4 S
part E pins: 5 S
part F pins: 6 S
part G pins: 7 S

## 87438-08
designator X?, comment Wire-to-Board  1.50mm (.059") Pitch Header - Right Angle, SMT, Shrouded   Source: http://www.molex.com/product/micro/87438.html
OC_FARNELL: 1756939; OC_NEWARK: unknown
footprint 87438-08
part A pins: 1 S
part B pins: 2 S
part C pins: 3 S
part D pins: 4 S
part E pins: 5 S
part F pins: 6 S
part G pins: 7 S
part H pins: 8 S

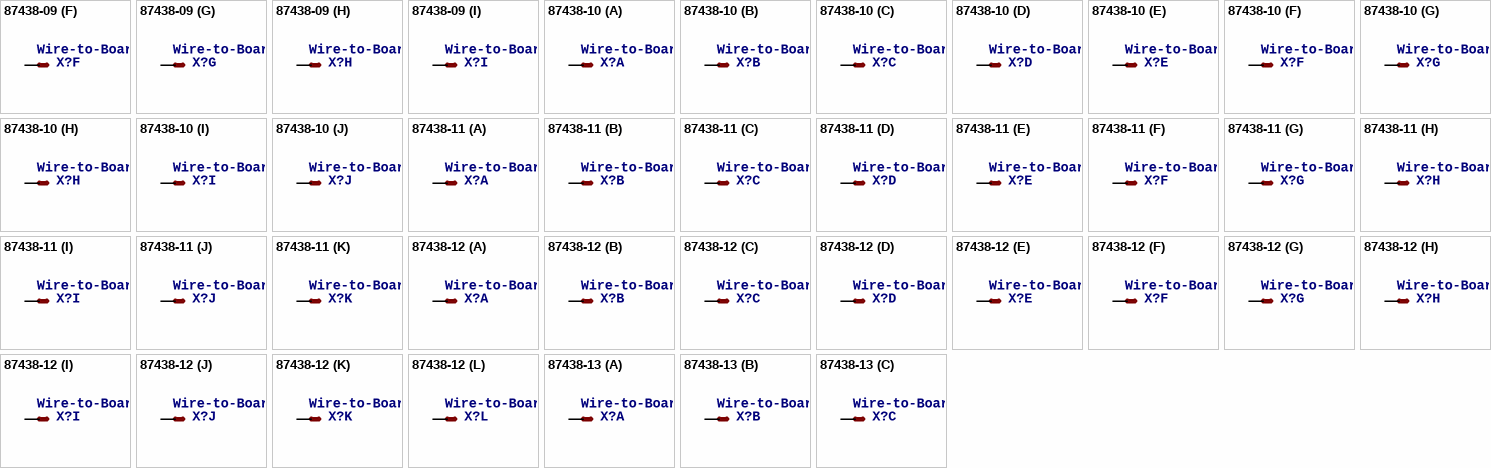
[diagram p87: symbols 87438-09 to 87438-13]

## 87438-09
designator X?, comment Wire-to-Board  1.50mm (.059") Pitch Header - Right Angle, SMT, Shrouded   Source: http://www.molex.com/product/micro/87438.html
OC_FARNELL: unknown; OC_NEWARK: unknown
footprint 87438-09
part A pins: 1 S
part B pins: 2 S
part C pins: 3 S
part D pins: 4 S
part E pins: 5 S
part F pins: 6 S
part G pins: 7 S
part H pins: 8 S
part I pins: 9 S

## 87438-10
designator X?, comment Wire-to-Board  1.50mm (.059") Pitch Header - Right Angle, SMT, Shrouded   Source: http://www.molex.com/product/micro/87438.html
OC_FARNELL: unknown; OC_NEWARK: unknown
footprint 87438-10
part A pins: 1 S
part B pins: 2 S
part C pins: 3 S
part D pins: 4 S
part E pins: 5 S
part F pins: 6 S
part G pins: 7 S
part H pins: 8 S
part I pins: 9 S
part J pins: 10 S

## 87438-11
designator X?, comment Wire-to-Board  1.50mm (.059") Pitch Header - Right Angle, SMT, Shrouded   Source: http://www.molex.com/product/micro/87438.html
MPN: 87438-1142; OC_FARNELL: unknown; OC_NEWARK: 94M1098
footprint 87438-11
part A pins: 1 S
part B pins: 2 S
part C pins: 3 S
part D pins: 4 S
part E pins: 5 S
part F pins: 6 S
part G pins: 7 S
part H pins: 8 S
part I pins: 9 S
part J pins: 10 S
part K pins: 11 S

## 87438-12
designator X?, comment Wire-to-Board  1.50mm (.059") Pitch Header - Right Angle, SMT, Shrouded   Source: http://www.molex.com/product/micro/87438.html
OC_FARNELL: 1711334; OC_NEWARK: unknown
footprint 87438-12
part A pins: 1 S
part B pins: 2 S
part C pins: 3 S
part D pins: 4 S
part E pins: 5 S
part F pins: 6 S
part G pins: 7 S
part H pins: 8 S
part I pins: 9 S
part J pins: 10 S
part K pins: 11 S
part L pins: 12 S

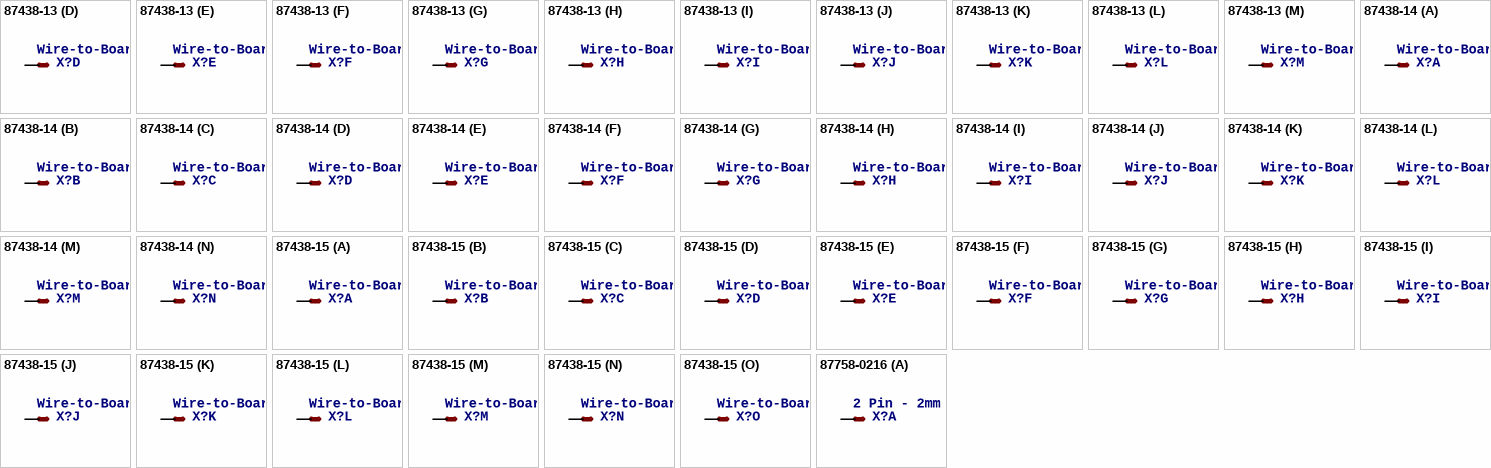
[diagram p88: symbols 87438-13 to 87758-0216]

## 87438-13
designator X?, comment Wire-to-Board  1.50mm (.059") Pitch Header - Right Angle, SMT, Shrouded   Source: http://www.molex.com/product/micro/87438.html
MPN: 87438-1343; OC_FARNELL: unknown; OC_NEWARK: 94M1104
footprint 87438-13
part A pins: 1 S
part B pins: 2 S
part C pins: 3 S
part D pins: 4 S
part E pins: 5 S
part F pins: 6 S
part G pins: 7 S
part H pins: 8 S
part I pins: 9 S
part J pins: 10 S
part K pins: 11 S
part L pins: 12 S
part M pins: 13 S

## 87438-14
designator X?, comment Wire-to-Board  1.50mm (.059") Pitch Header - Right Angle, SMT, Shrouded   Source: http://www.molex.com/product/micro/87438.html
MPN: 87438-1443; OC_FARNELL: unknown; OC_NEWARK: 94M1107
footprint 87438-14
part A pins: 1 S
part B pins: 2 S
part C pins: 3 S
part D pins: 4 S
part E pins: 5 S
part F pins: 6 S
part G pins: 7 S
part H pins: 8 S
part I pins: 9 S
part J pins: 10 S
part K pins: 11 S
part L pins: 12 S
part M pins: 13 S
part N pins: 14 S

## 87438-15
designator X?, comment Wire-to-Board  1.50mm (.059") Pitch Header - Right Angle, SMT, Shrouded   Source: http://www.molex.com/product/micro/87438.html
MPN: 87438-1542; OC_FARNELL: unknown; OC_NEWARK: 68K1704
footprint 87438-15
part A pins: 1 S
part B pins: 2 S
part C pins: 3 S
part D pins: 4 S
part E pins: 5 S
part F pins: 6 S
part G pins: 7 S
part H pins: 8 S
part I pins: 9 S
part J pins: 10 S
part K pins: 11 S
part L pins: 12 S
part M pins: 13 S
part N pins: 14 S
part O pins: 15 S

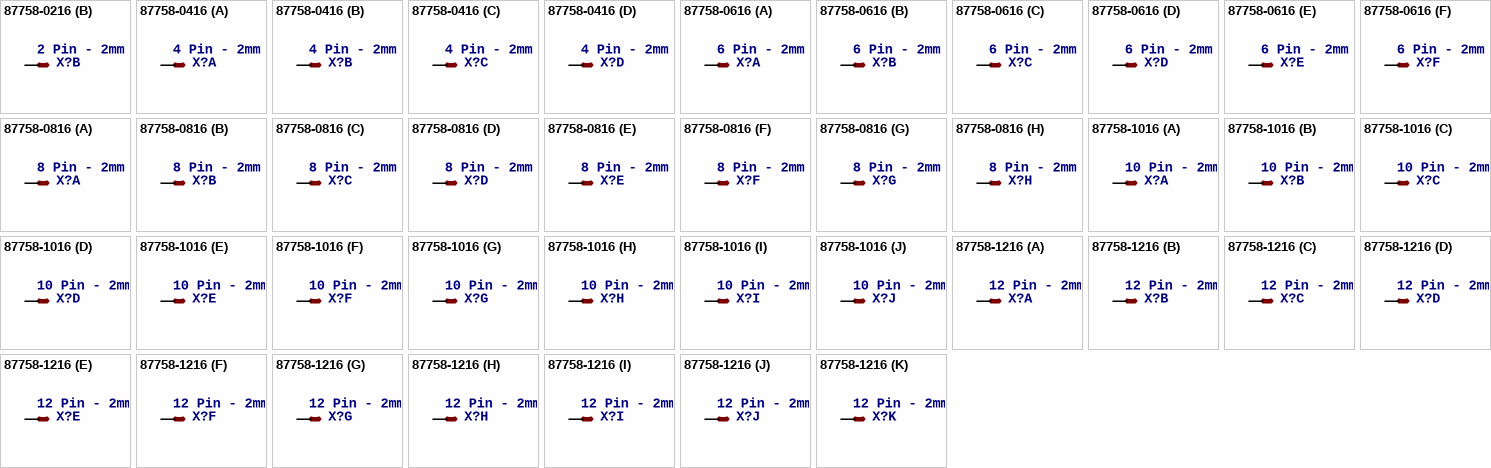
[diagram p89: symbols 87758-0216 to 87758-1216]

## 87758-0216
designator X?, comment 2 Pin - 2mm Dual Row Single Wafer, Vertical T/H HDR   Source: http://www.molex.com/pdm_docs/sd/877580616_sd.pdf
MPN: 87758-0216; OC_FARNELL: unknown; OC_NEWARK: 94M1513
footprint 87758-0216
part A pins: 1 S
part B pins: 2 S

## 87758-0416
designator X?, comment 4 Pin - 2mm Dual Row Single Wafer, Vertical T/H HDR   Source: http://www.molex.com/pdm_docs/sd/877580616_sd.pdf
MPN: 87758-0416; MF: FARNELL; OC_FARNELL: 7472315; OC_NEWARK: 39K3681
footprint 87758-0416
part A pins: 1 S
part B pins: 2 S
part C pins: 3 S
part D pins: 4 S

## 87758-0616
designator X?, comment 6 Pin - 2mm Dual Row Single Wafer, Vertical T/H HDR   Source: http://www.molex.com/pdm_docs/sd/877580616_sd.pdf
MPN: 87758-0616; OC_FARNELL: 7472323; OC_NEWARK: 25M5667
footprint 87758-0616
part A pins: 1 S
part B pins: 2 S
part C pins: 3 S
part D pins: 4 S
part E pins: 5 S
part F pins: 6 S

## 87758-0816
designator X?, comment 8 Pin - 2mm Dual Row Single Wafer, Vertical T/H HDR   Source: http://www.molex.com/pdm_docs/sd/877580616_sd.pdf
MPN: 87758-0816; MF: MOLEX; OC_FARNELL: 7472331; OC_NEWARK: 59J1556
footprint 87758-0816
part A pins: 1 S
part B pins: 2 S
part C pins: 3 S
part D pins: 4 S
part E pins: 5 S
part F pins: 6 S
part G pins: 7 S
part H pins: 8 S

## 87758-1016
designator X?, comment 10 Pin - 2mm Dual Row Single Wafer, Vertical T/H HDR   Source: http://www.molex.com/pdm_docs/sd/877580616_sd.pdf
MPN: 87758-1016; MF: MOLEX; OC_FARNELL: 7472340; OC_NEWARK: 59J1558
footprint 87758-1016
part A pins: 1 S
part B pins: 2 S
part C pins: 3 S
part D pins: 4 S
part E pins: 5 S
part F pins: 6 S
part G pins: 7 S
part H pins: 8 S
part I pins: 9 S
part J pins: 10 S

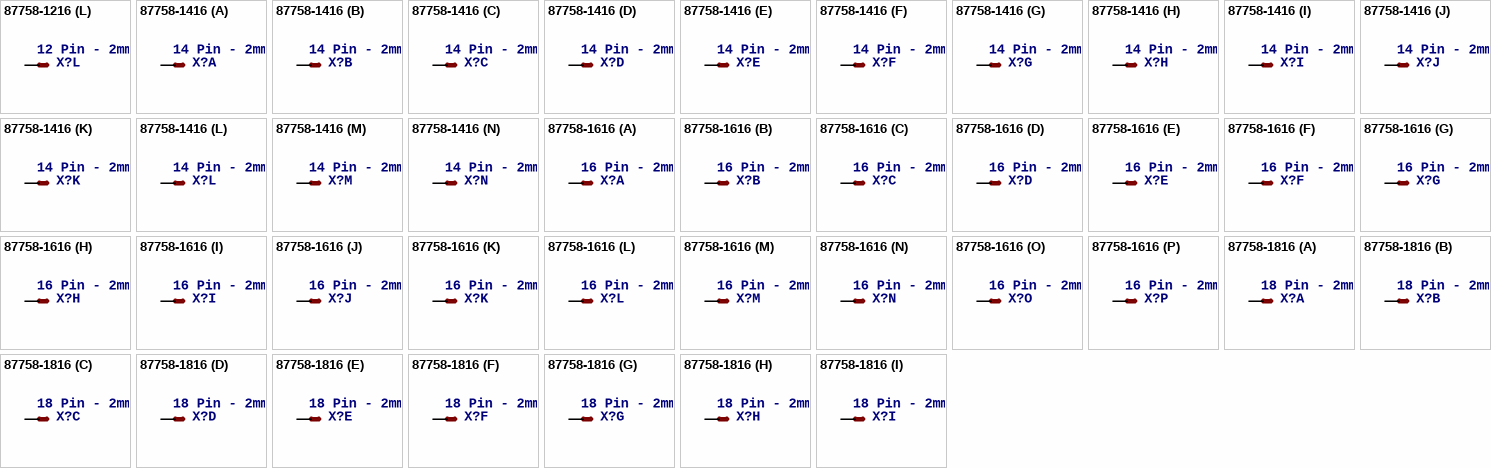
[diagram p90: symbols 87758-1216 to 87758-1816]

## 87758-1216
designator X?, comment 12 Pin - 2mm Dual Row Single Wafer, Vertical T/H HDR   Source: http://www.molex.com/pdm_docs/sd/877580616_sd.pdf
MPN: 87758-1216; OC_FARNELL: unknown; OC_NEWARK: 25M5671
footprint 87758-1216
part A pins: 1 S
part B pins: 2 S
part C pins: 3 S
part D pins: 4 S
part E pins: 5 S
part F pins: 6 S
part G pins: 7 S
part H pins: 8 S
part I pins: 9 S
part J pins: 10 S
part K pins: 11 S
part L pins: 12 S

## 87758-1416
designator X?, comment 14 Pin - 2mm Dual Row Single Wafer, Vertical T/H HDR   Source: http://www.molex.com/pdm_docs/sd/877580616_sd.pdf
MPN: 87758-1416; MF: MOLEX; OC_FARNELL: 7472358; OC_NEWARK: 59J1562
footprint 87758-1416
part A pins: 1 S
part B pins: 2 S
part C pins: 3 S
part D pins: 4 S
part E pins: 5 S
part F pins: 6 S
part G pins: 7 S
part H pins: 8 S
part I pins: 9 S
part J pins: 10 S
part K pins: 11 S
part L pins: 12 S
part M pins: 13 S
part N pins: 14 S

## 87758-1616
designator X?, comment 16 Pin - 2mm Dual Row Single Wafer, Vertical T/H HDR   Source: http://www.molex.com/pdm_docs/sd/877580616_sd.pdf
MPN: 87758-1616; MF: MOLEX; OC_FARNELL: 7472366; OC_NEWARK: 59J1563
footprint 87758-1616
part A pins: 1 S
part B pins: 2 S
part C pins: 3 S
part D pins: 4 S
part E pins: 5 S
part F pins: 6 S
part G pins: 7 S
part H pins: 8 S
part I pins: 9 S
part J pins: 10 S
part K pins: 11 S
part L pins: 12 S
part M pins: 13 S
part N pins: 14 S
part O pins: 15 S
part P pins: 16 S

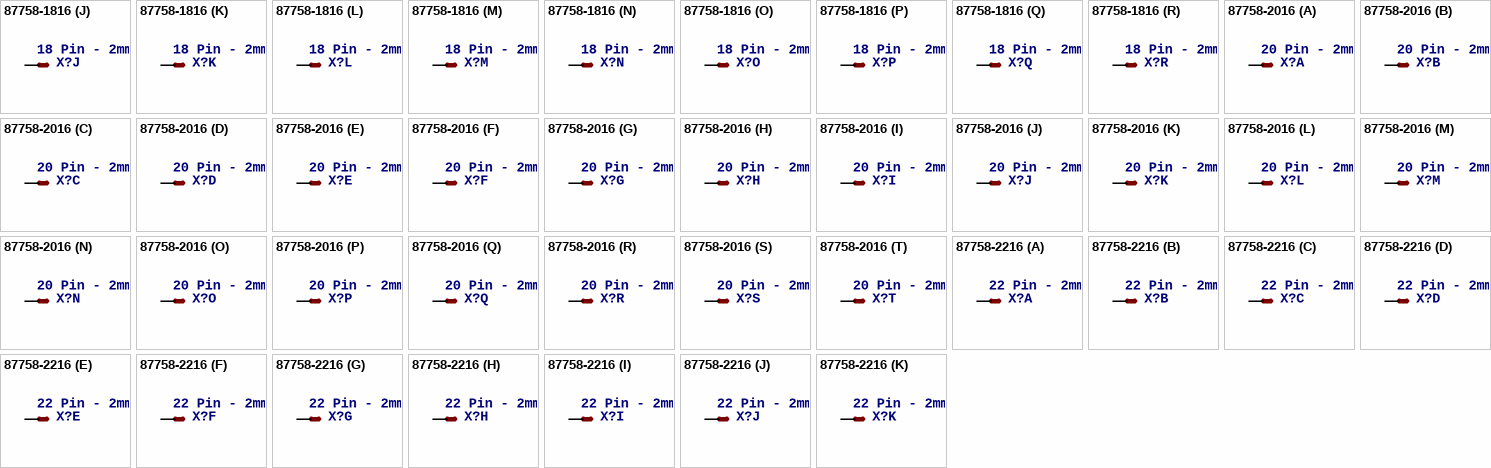
[diagram p91: symbols 87758-1816 to 87758-2216]

## 87758-1816
designator X?, comment 18 Pin - 2mm Dual Row Single Wafer, Vertical T/H HDR   Source: http://www.molex.com/pdm_docs/sd/877580616_sd.pdf
MPN: 87758-1816; OC_FARNELL: unknown; OC_NEWARK: 25M5675
footprint 87758-1816
part A pins: 1 S
part B pins: 2 S
part C pins: 3 S
part D pins: 4 S
part E pins: 5 S
part F pins: 6 S
part G pins: 7 S
part H pins: 8 S
part I pins: 9 S
part J pins: 10 S
part K pins: 11 S
part L pins: 12 S
part M pins: 13 S
part N pins: 14 S
part O pins: 15 S
part P pins: 16 S
part Q pins: 17 S
part R pins: 18 S

## 87758-2016
designator X?, comment 20 Pin - 2mm Dual Row Single Wafer, Vertical T/H HDR   Source: http://www.molex.com/pdm_docs/sd/877580616_sd.pdf
MPN: 87758-2016; OC_FARNELL: 7472374; OC_NEWARK: 25M5677
footprint 87758-2016
part A pins: 1 S
part B pins: 2 S
part C pins: 3 S
part D pins: 4 S
part E pins: 5 S
part F pins: 6 S
part G pins: 7 S
part H pins: 8 S
part I pins: 9 S
part J pins: 10 S
part K pins: 11 S
part L pins: 12 S
part M pins: 13 S
part N pins: 14 S
part O pins: 15 S
part P pins: 16 S
part Q pins: 17 S
part R pins: 18 S
part S pins: 19 S
part T pins: 20 S